# Altium schematic symbol library IC.SchLib: 136 symbols
Pins are listed as number, name and electrical type; pins without a type are passive.

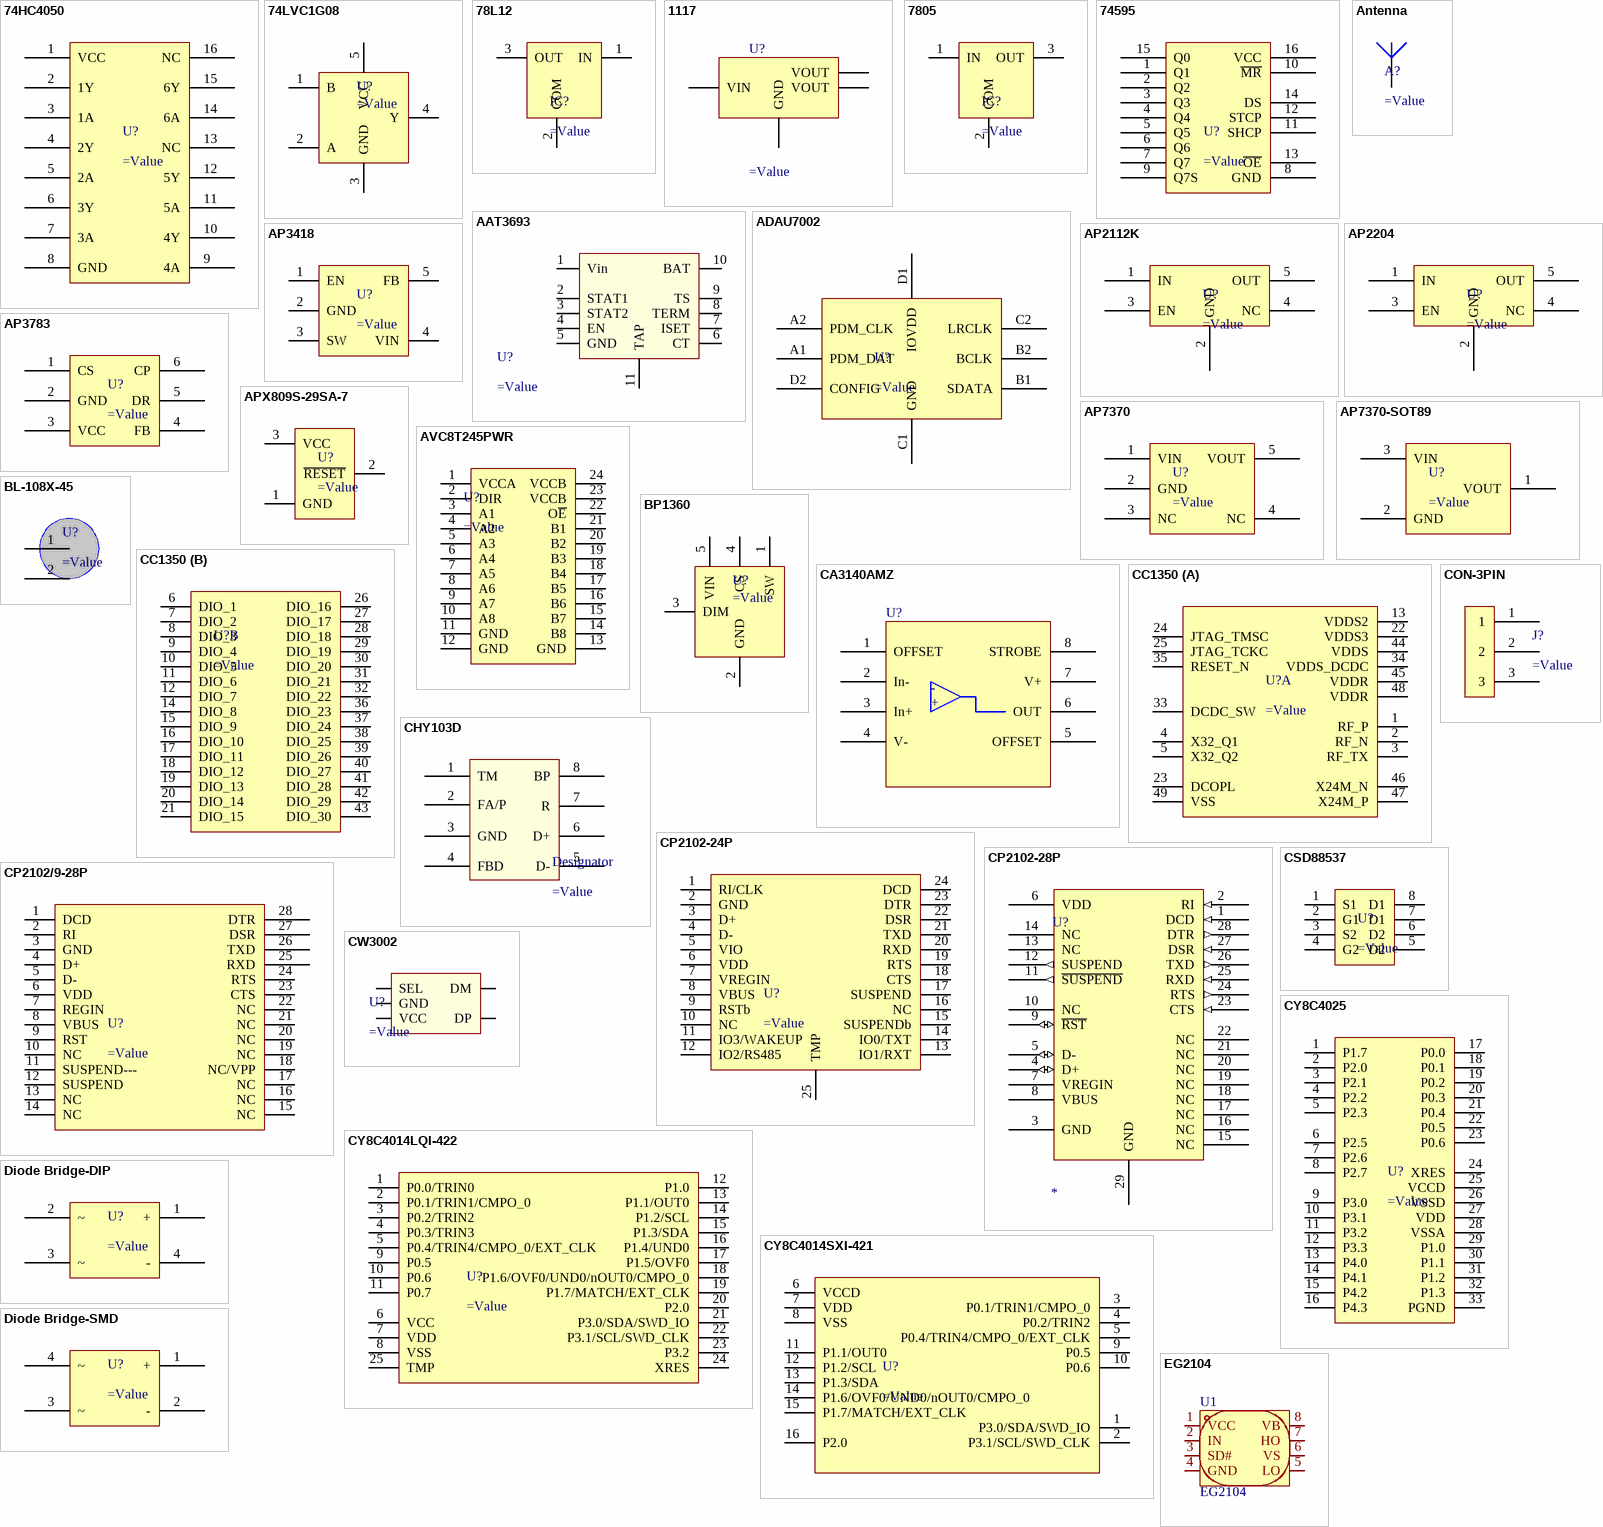
[diagram p0: symbols 74HC4050 to EG2104]

## 74HC4050
designator U?
=Description
pins: 1 VCC, 2 1Y, 3 1A, 4 2Y, 5 2A, 6 3Y, 7 3A, 8 GND, 9 4A, 10 4Y, 11 5A, 12 5Y, 13 NC, 14 6A, 15 6Y, 16 NC

## 74LVC1G08
designator U?
=Description
pins: 1 B, 2 A, 3 GND, 4 Y, 5 VCC

## 78L12
designator IC?
=Description
pins: 1 IN, 2 COM, 3 OUT

## 1117
designator U?
=Description
pins: 1 GND (power), 2 VOUT (power), 3 VIN (power), 4 VOUT

## 7805
designator IC?
=Description
pins: 1 IN, 2 COM, 3 OUT

## 74595
designator U?
=Description
pins: 1 Q1, 2 Q2, 3 Q3, 4 Q4, 5 Q5, 6 Q6, 7 Q7, 8 GND, 9 Q7S, 10 ~{MR}, 11 SHCP, 12 STCP, 13 ~{OE}, 14 DS, 15 Q0, 16 VCC

## AAT3693
designator U?
=Description
pins: 1 Vin, 2 STAT1, 3 STAT2, 4 EN, 5 GND, 6 CT, 7 ISET, 8 TERM, 9 TS, 10 BAT, 11 TAP

## ADAU7002
designator U?
=Description
pins: A1 PDM_DAT, A2 PDM_CLK, B1 SDATA, B2 BCLK, C1 GND, C2 LRCLK, D1 IOVDD, D2 CONFIG

## Antenna
designator A?
=Description
pins: 1

## AP2112K
designator U?
=description
pins: 1 IN, 2 GND, 3 EN, 4 NC, 5 OUT

## AP2204
designator U?
=Description
pins: 1 IN, 2 GND, 3 EN, 4 NC, 5 OUT

## AP3418
designator U?
=Description
pins: 1 EN, 2 GND, 3 SW, 4 VIN, 5 FB

## AP3783
designator U?
=Description
pins: 1 CS, 2 GND, 3 VCC, 4 FB, 5 DR, 6 CP

## AP7370
designator U?
=Description
pins: 1 VIN, 2 GND, 3 NC, 4 NC, 5 VOUT

## AP7370-SOT89
designator U?
=Description
pins: 1 VOUT, 2 GND, 3 VIN

## APX809S-29SA-7
designator U?
=Description
pins: 1 GND, 2 ~{RESET}, 3 VCC

## AVC8T245PWR
designator U?
=Description
pins: 1 VCCA, 2 DIR, 3 A1, 4 A2, 5 A3, 6 A4, 7 A5, 8 A6, 9 A7, 10 A8, 11 GND, 12 GND, 13 GND, 14 B8, 15 B7, 16 B6, 17 B5, 18 B4, 19 B3, 20 B2, 21 B1, 22 O~{E}, 23 VCCB, 24 VCCB

## BL-108X-45
designator U?
=Décription
pins: 1 VOUT, 2 VOUT

## BP1360
designator U?
=Description
pins: 1 SW, 2 GND, 3 DIM, 4 CS, 5 VIN

## CA3140AMZ
designator U?
=Description; Part Num 1: LM358MX; Des: IC OPAMP GP 8SOIC; MANU 1: ON Semiconductor; MANU 2: BanLinhKien.Vn; Catelogy: IC; Unit: Pcs; Kieu_Chan: *; Type: SM; Part Num 2: MH000609
footprint SOIC-8 (SOIC, 8-Leads, Body 4.9x3.9mm, Pitch 1.27mm, IPC Low Density)
pins: 1 OFFSET, 2 In-, 3 In+, 4 V-, 5 OFFSET, 6 OUT, 7 V+, 8 STROBE
text: -; +

## CC1350
designator U?
=Description
part A pins: 1 RF_P, 2 RF_N, 3 RF_TX, 4 X32_Q1, 5 X32_Q2, 13 VDDS2, 22 VDDS3, 23 DCOPL, 24 JTAG_TMSC, 25 JTAG_TCKC, 33 DCDC_SW, 34 VDDS_DCDC, 35 RESET_N, 44 VDDS, 45 VDDR, 46 X24M_N, 47 X24M_P, 48 VDDR, 49 VSS
part B pins: 6 DIO_1, 7 DIO_2, 8 DIO_3, 9 DIO_4, 10 DIO_5, 11 DIO_6, 12 DIO_7, 14 DIO_8, 15 DIO_9, 16 DIO_10, 17 DIO_11, 18 DIO_12, 19 DIO_13, 20 DIO_14, 21 DIO_15, 26 DIO_16, 27 DIO_17, 28 DIO_18, 29 DIO_19, 30 DIO_20, 31 DIO_21, 32 DIO_22, 36 DIO_23, 37 DIO_24, 38 DIO_25, 39 DIO_26, 40 DIO_27, 41 DIO_28, 42 DIO_29, 43 DIO_30

## CHY103D
designator Designator
=Description
pins: 1 TM, 2 FA/P, 3 GND, 4 FBD, 5 D-, 6 D+, 7 R, 8 BP

## CON-3PIN
designator J?
=Description
pins: 1, 2, 3

## CP2102-24P
designator U?
=Description
pins: 1 RI/CLK, 2 GND, 3 D+, 4 D-, 5 VIO, 6 VDD, 7 VREGIN, 8 VBUS, 9 RSTb, 10 NC, 11 IO3/WAKEUP, 12 IO2/RS485, 13 IO1/RXT, 14 IO0/TXT, 15 SUSPENDb, 16 NC, 17 SUSPEND, 18 CTS, 19 RTS, 20 RXD, 21 TXD, 22 DSR, 23 DTR, 24 DCD, 25 TMP

## CP2102-28P
designator U?
=Description; Value: *
pins: 1 DCD (in), 2 RI (in), 3 GND (power), 4 D+ (io), 5 D- (io), 6 VDD (power), 7 VREGIN, 8 VBUS, 9 ~{RST} (io), 10 NC, 11 ~{SUSPEND} (out), 12 SUSPEND (out), 13 NC, 14 NC, 15 NC, 16 NC, 17 NC, 18 NC, 19 NC, 20 NC, 21 NC, 22 NC, 23 CTS (in), 24 RTS (out), 25 RXD (in), 26 TXD (out), 27 DSR (in), 28 DTR (out), 29 GND

## CP2102/9-28P
designator U?
=Description
pins: 1 DCD, 2 RI, 3 GND, 4 D+, 5 D-, 6 VDD, 7 REGIN, 8 VBUS, 9 RST, 10 NC, 11 SUSPEND---, 12 SUSPEND, 13 NC, 14 NC, 15 NC, 16 NC, 17 NC, 18 NC/VPP, 19 NC, 20 NC, 21 NC, 22 NC, 23 CTS, 24 RTS, 25 RXD, 26 TXD, 27 DSR, 28 DTR

## CSD88537
designator U?
=Description
pins: 1 S1, 2 G1, 3 S2, 4 G2, 5 D2, 6 D2, 7 D1, 8 D1

## CW3002
designator U?
=Description
pins: 1 SEL, 2 GND, 3 VCC, 4 DP, 5 DM

## CY8C4014LQI-422
designator U?
=Description
pins: 1 P0.0/TRIN0, 2 P0.1/TRIN1/CMPO_0, 3 P0.2/TRIN2, 4 P0.3/TRIN3, 5 P0.4/TRIN4/CMPO_0/EXT_CLK, 6 VCC, 7 VDD, 8 VSS, 9 P0.5, 10 P0.6, 11 P0.7, 12 P1.0, 13 P1.1/OUT0, 14 P1.2/SCL, 15 P1.3/SDA, 16 P1.4/UND0, 17 P1.5/OVF0, 18 P1.6/OVF0/UND0/nOUT0/CMPO_0, 19  P1.7/MATCH/EXT_CLK, 20 P2.0, 21  P3.0/SDA/SWD_IO, 22 P3.1/SCL/SWD_CLK, 23 P3.2, 24 XRES, 25 TMP

## CY8C4014SXI-421
designator U?
=Description
pins: 1 P3.0/SDA/SWD_IO, 2 P3.1/SCL/SWD_CLK, 3 P0.1/TRIN1/CMPO_0, 4 P0.2/TRIN2, 5 P0.4/TRIN4/CMPO_0/EXT_CLK, 6 VCCD, 7 VDD, 8 VSS, 9 P0.5, 10 P0.6, 11 P1.1/OUT0, 12 P1.2/SCL, 13 P1.3/SDA, 14 P1.6/OVF0/UND0/nOUT0/CMPO_0, 15 P1.7/MATCH/EXT_CLK, 16 P2.0

## CY8C4025
designator U?
=Description
pins: 1 P1.7, 2 P2.0, 3 P2.1, 4 P2.2, 5 P2.3, 6 P2.5, 7 P2.6, 8 P2.7, 9 P3.0, 10 P3.1, 11 P3.2, 12 P3.3, 13 P4.0, 14 P4.1, 15 P4.2, 16 P4.3, 17 P0.0, 18 P0.1, 19 P0.2, 20 P0.3, 21 P0.4, 22 P0.5, 23 P0.6, 24 XRES, 25 VCCD, 26 VSSD, 27 VDD, 28 VSSA, 29 P1.0, 30 P1.1, 31 P1.2, 32 P1.3, 33 PGND

## Diode Bridge-DIP
designator U?
=Description
pins: 1 +, 2 ~, 3 ~, 4 -

## Diode Bridge-SMD
designator U?
=Description
pins: 1 +, 2 -, 3 ~, 4 ~

## EG2104
designator U1
Manufacturer: EG(屹晶微); Add into BOM: yes; Symbol: EG2104; Device: EG2104; LCSC Part Name: EG2104; Supplier Part: C186697; Manufacturer Part: EG2104; Supplier Footprint: SOP-8; JLCPCB Part Class: Extended Part; Datasheet: https://atta.szlcsc.com/upload/public/pdf/source/20220627/4CCFA0CAB664067FEE4AF87E4129127F.pdf; Supplier: LCSC; Convert to PCB: yes
pins: 1 VCC, 2 IN, 3 SD#, 4 GND, 5 LO, 6 VS, 7 HO, 8 VB

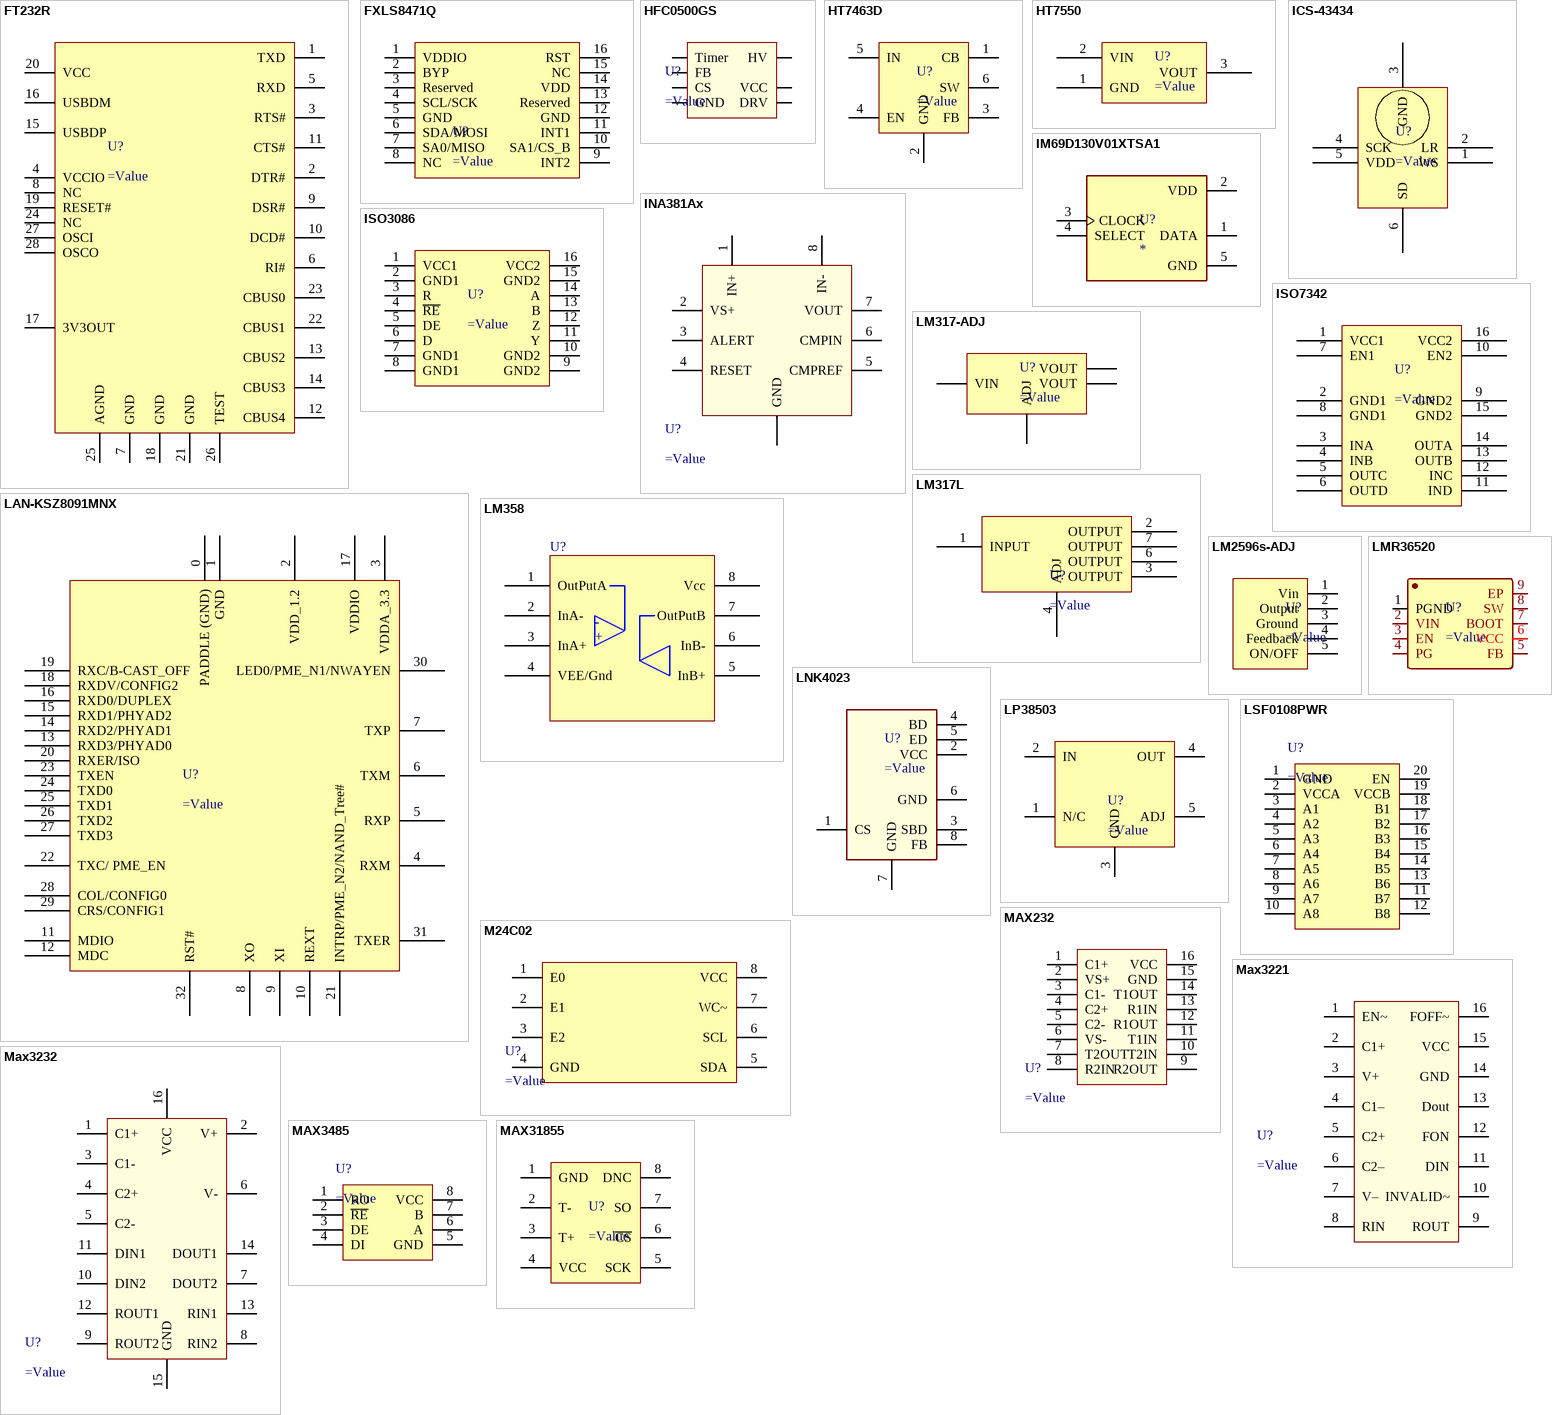
[diagram p1: symbols FT232R to MAX31855]

## FT232R
designator U?
=Description
pins: 1 TXD, 2 DTR#, 3 RTS#, 4 VCCIO, 5 RXD, 6 RI#, 7 GND, 8 NC, 9 DSR#, 10 DCD#, 11 CTS#, 12 CBUS4, 13 CBUS2, 14 CBUS3, 15 USBDP, 16 USBDM, 17 3V3OUT, 18 GND, 19 RESET#, 20 VCC, 21 GND, 22 CBUS1, 23 CBUS0, 24 NC, 25 AGND, 26 TEST, 27 OSCI, 28 OSCO

## FXLS8471Q
designator U?
=Description
pins: 1 VDDIO, 2 BYP, 3 Reserved, 4 SCL/SCK, 5 GND, 6 SDA/MOSI, 7 SA0/MISO, 8 NC, 9 INT2, 10 SA1/CS_B, 11 INT1, 12 GND, 13 Reserved, 14 VDD, 15 NC, 16 RST

## HFC0500GS
designator U?
=Description
pins: 1 Timer, 2 FB, 3 CS, 4 GND, 5 DRV, 6 VCC, 8 HV

## HT7463D
designator U?
=Description
pins: 1 CB, 2 GND, 3 FB, 4 EN, 5 IN, 6 SW

## HT7550
designator U?
=Description
pins: 1 GND, 2 VIN, 3 VOUT

## ICS-43434
designator U?
=Description
pins: 1 WS, 2 LR, 3 GND, 4 SCK, 5 VDD, 6 SD

## IM69D130V01XTSA1
designator U?
=Description; MF: Infineon Technologies; MP: IM69D130V01XTSA1; Value: *; Availability: Unavailable; Package: LLGA-5-1 Infineon Technologies; Price: None; SnapEDA_Link: https://www.snapeda.com/parts/IM69D130V01XTSA1/Infineon%20Technologies/view-part/2689823/?ref=snap
footprint MIC_IM69D130V01XTSA1
pins: 1 DATA, 2 VDD (power), 3 CLOCK, 4 SELECT, 5 GND (power)

## INA381Ax
designator U?
=Description
pins: 1 IN+, 2 VS+, 3 ALERT, 4 RESET, 5 CMPREF, 6 CMPIN, 7 VOUT, 8 IN-, PAD GND

## ISO3086
designator U?
=Description
pins: 1 VCC1, 2 GND1, 3 R, 4 ~{RE}, 5 DE, 6 D, 7 GND1, 8 GND1, 9 GND2, 10 GND2, 11 Y, 12 Z, 13 B, 14 A, 15 GND2, 16 VCC2

## ISO7342
designator U?
=Description
pins: 1 VCC1, 2 GND1, 3 INA, 4 INB, 5 OUTC, 6 OUTD, 7 EN1, 8 GND1, 9 GND2, 10 EN2, 11 IND, 12 INC, 13 OUTB, 14 OUTA, 15 GND2, 16 VCC2

## LAN-KSZ8091MNX
designator U?
pins: 0 PADDLE (GND), 1 GND, 2 VDD_1.2, 3 VDDA_3.3, 4 RXM, 5 RXP, 6 TXM, 7 TXP, 8 XO, 9 XI, 10 REXT, 11 MDIO, 12 MDC, 13 RXD3/PHYAD0, 14 RXD2/PHYAD1, 15 RXD1/PHYAD2, 16 RXD0/DUPLEX, 17 VDDIO, 18 RXDV/CONFIG2, 19 RXC/B-CAST_OFF, 20 RXER/ISO, 21 INTRP/PME_N2/NAND_Tree#, 22 TXC/ PME_EN, 23 TXEN, 24 TXD0, 25 TXD1, 26 TXD2, 27 TXD3, 28 COL/CONFIG0, 29 CRS/CONFIG1, 30 LED0/PME_N1/NWAYEN, 31 TXER, 32 RST#

## LM317-ADJ
designator U?
=Description
pins: 1 ADJ (power), 2 VOUT (power), 3 VIN (power), 4 VOUT

## LM317L
designator U?
=Description
pins: 1 INPUT, 2 OUTPUT, 3 OUTPUT, 4 ADJ, 6 OUTPUT, 7 OUTPUT

## LM358
designator U?
=Description; Part Num 1: LM358MX; Des: IC OPAMP GP 8SOIC; MANU 1: ON Semiconductor; MANU 2: BanLinhKien.Vn; Catelogy: IC; Unit: Pcs; Kieu_Chan: *; Type: SM; Part Num 2: MH000609
footprint SOIC-8 (SOIC, 8-Leads, Body 4.9x3.9mm, Pitch 1.27mm, IPC Low Density)
pins: 1 OutPutA, 2 InA-, 3 InA+, 4 VEE/Gnd, 5 InB+, 6 InB-, 7 OutPutB, 8 Vcc
text: -; +

## LM2596s-ADJ
designator U?
=Description
pins: 1 Vin, 2 Output, 3 Ground, 4 Feedback, 5 ON/OFF

## LMR36520
designator U?
pins: 1 PGND, 2 VIN, 3 EN, 4 PG, 5 FB, 6 VCC, 7 BOOT, 8 SW, 9 EP

## LNK4023
designator U?
=Description
pins: 1 CS, 2 VCC, 3 SBD, 4 BD, 5 ED, 6 GND, 7 GND, 8 FB

## LP38503
designator U?
=Description
pins: 1 N/C, 2 IN, 3 GND, 4 OUT, 5 ADJ

## LSF0108PWR
designator U?
=Description
pins: 1 GND, 2 VCCA, 3 A1, 4 A2, 5 A3, 6 A4, 7 A5, 8 A6, 9 A7, 10 A8, 11 B7, 12 B8, 13 B6, 14 B5, 15 B4, 16 B3, 17 B2, 18 B1, 19 VCCB, 20 EN

## M24C02
designator U?
=Description
pins: 1 E0, 2 E1, 3 E2, 4 GND, 5 SDA, 6 SCL, 7 WC~ (oc), 8 VCC

## MAX232
designator U?
=Description
pins: 1 C1+, 2 VS+, 3 C1-, 4 C2+, 5 C2-, 6 VS-, 7 T2OUT, 8 R2IN, 9 R2OUT, 10 T2IN, 11 T1IN, 12 R1OUT, 13 R1IN, 14 T1OUT, 15 GND, 16 VCC

## Max3221
designator U?
=Description
pins: 1 EN~, 2 C1+, 3 V+, 4 C1–, 5 C2+, 6 C2–, 7 V–, 8 RIN, 9 ROUT, 10 INVALID~, 11 DIN, 12 FON, 13 Dout, 14 GND, 15 VCC, 16 FOFF~

## Max3232
designator U?
=Description
pins: 1 C1+, 2 V+, 3 C1-, 4 C2+, 5 C2-, 6 V-, 7 DOUT2, 8 RIN2, 9 ROUT2, 10 DIN2, 11 DIN1, 12 ROUT1, 13 RIN1, 14 DOUT1, 15 GND, 16 VCC

## MAX3485
designator U?
=Description
pins: 1 RO, 2 ~{RE}, 3 DE, 4 DI, 5 GND, 6 A, 7 B, 8 VCC

## MAX31855
designator U?
=Description
pins: 1 GND, 2 T-, 3 T+, 4 VCC, 5 SCK, 6 ~{CS}, 7 SO, 8 DNC

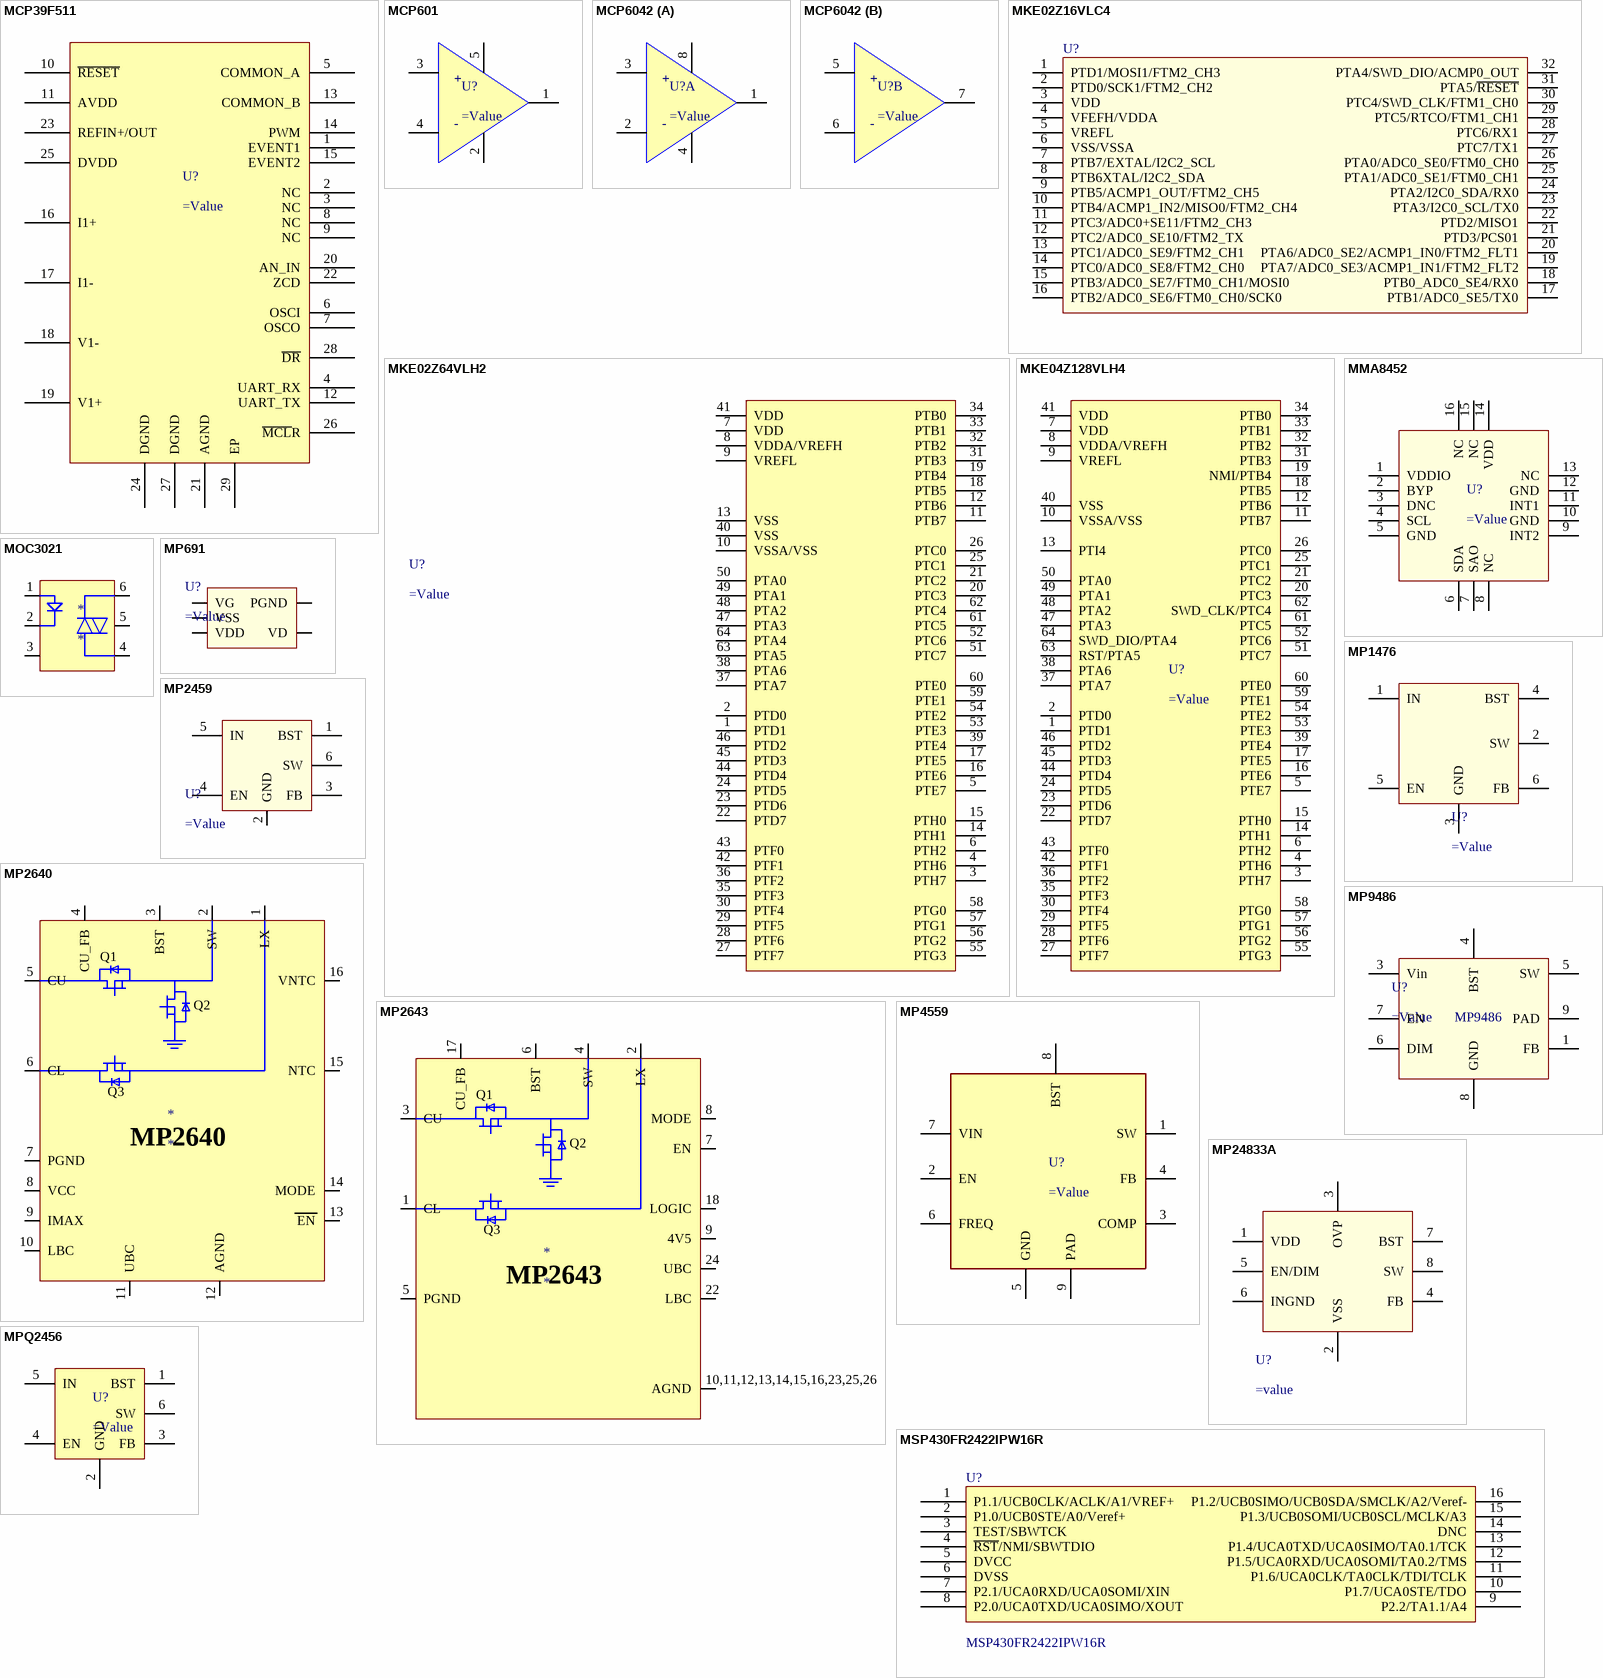
[diagram p2: symbols MCP39F511 to MSP430FR2422IPW16R]

## MCP39F511
designator U?
=Description
pins: 1 EVENT1, 2 NC, 3 NC, 4 UART_RX, 5 COMMON_A, 6 OSCI, 7 OSCO, 8 NC, 9 NC, 10 ~{RESET}, 11 AVDD, 12 UART_TX, 13 COMMON_B, 14 PWM, 15 EVENT2, 16 I1+, 17 I1-, 18 V1-, 19 V1+, 20 AN_IN, 21 AGND, 22 ZCD, 23 REFIN+/OUT, 24 DGND, 25 DVDD, 26 ~{MCL}R, 27 DGND, 28 ~{DR}, 29 EP

## MCP601
designator U?
=Description
pins: 1 VOUT, 2 VSS, 3 VIN+, 4 VIN+, 5 VDD
text: +; -

## MCP6042
designator U?
=Description
part A pins: 1 VOUT, 2, 3, 4, 8
part B pins: 5, 6, 7 VOUT
part A text: +; -
part B text: +; -

## MKE02Z16VLC4
designator U?
=Description; Part Num 1: MKE02Z16VLC4; Catelogy: IC; Des: IC MCU 32BIT 16KB FLASH 32LQFP; MANU 1: NXP USA Inc.; Type: SM
pins: 1 PTD1/MOSI1/FTM2_CH3, 2 PTD0/SCK1/FTM2_CH2, 3 VDD, 4 VFEFH/VDDA, 5 VREFL, 6 VSS/VSSA, 7 PTB7/EXTAL/I2C2_SCL, 8 PTB6XTAL/I2C2_SDA, 9 PTB5/ACMP1_OUT/FTM2_CH5, 10 PTB4/ACMP1_IN2/MISO0/FTM2_CH4, 11 PTC3/ADC0+SE11/FTM2_CH3, 12 PTC2/ADC0_SE10/FTM2_TX, 13 PTC1/ADC0_SE9/FTM2_CH1, 14 PTC0/ADC0_SE8/FTM2_CH0, 15 PTB3/ADC0_SE7/FTM0_CH1/MOSI0, 16 PTB2/ADC0_SE6/FTM0_CH0/SCK0, 17 PTB1/ADC0_SE5/TX0, 18 PTB0_ADC0_SE4/RX0, 19 PTA7/ADC0_SE3/ACMP1_IN1/FTM2_FLT2, 20 PTA6/ADC0_SE2/ACMP1_IN0/FTM2_FLT1, 21 PTD3/PCS01, 22 PTD2/MISO1, 23 PTA3/I2C0_SCL/TX0, 24 PTA2/I2C0_SDA/RX0, 25 PTA1/ADC0_SE1/FTM0_CH1, 26 PTA0/ADC0_SE0/FTM0_CH0, 27 PTC7/TX1, 28 PTC6/RX1, 29 PTC5/RTCO/FTM1_CH1, 30 PTC4/SWD_CLK/FTM1_CH0, 31 PTA5/~{RESET}, 32 PTA4/SWD_DIO/ACMP0_OUT

## MKE02Z64VLH2
designator U?
=Description
pins: 1 PTD1, 2 PTD0, 3 PTH7, 4 PTH6, 5 PTE7, 6 PTH2, 7 VDD, 8 VDDA/VREFH, 9 VREFL, 10 VSSA/VSS, 11 PTB7, 12 PTB6, 13 VSS, 14 PTH1, 15 PTH0, 16 PTE6, 17 PTE5, 18 PTB5, 19 PTB4, 20 PTC3, 21 PTC2, 22 PTD7, 23 PTD6, 24 PTD5, 25 PTC1, 26 PTC0, 27 PTF7, 28 PTF6, 29 PTF5, 30 PTF4, 31 PTB3, 32 PTB2, 33 PTB1, 34 PTB0, 35 PTF3, 36 PTF2, 37 PTA7, 38 PTA6, 39 PTE4, 40 VSS, 41 VDD, 42 PTF1, 43 PTF0, 44 PTD4, 45 PTD3, 46 PTD2, 47 PTA3, 48 PTA2, 49 PTA1, 50 PTA0, 51 PTC7, 52 PTC6, 53 PTE3, 54 PTE2, 55 PTG3, 56 PTG2, 57 PTG1, 58 PTG0, 59 PTE1, 60 PTE0, 61 PTC5, 62 PTC4, 63 PTA5, 64 PTA4

## MKE04Z128VLH4
designator U?
=Description
pins: 1 PTD1, 2 PTD0, 3 PTH7, 4 PTH6, 5 PTE7, 6 PTH2, 7 VDD, 8 VDDA/VREFH, 9 VREFL, 10 VSSA/VSS, 11 PTB7, 12 PTB6, 13 PTI4, 14 PTH1, 15 PTH0, 16 PTE6, 17 PTE5, 18 PTB5, 19 NMI/PTB4, 20 PTC3, 21 PTC2, 22 PTD7, 23 PTD6, 24 PTD5, 25 PTC1, 26 PTC0, 27 PTF7, 28 PTF6, 29 PTF5, 30 PTF4, 31 PTB3, 32 PTB2, 33 PTB1, 34 PTB0, 35 PTF3, 36 PTF2, 37 PTA7, 38 PTA6, 39 PTE4, 40 VSS, 41 VDD, 42 PTF1, 43 PTF0, 44 PTD4, 45 PTD3, 46 PTD2, 47 PTA3, 48 PTA2, 49 PTA1, 50 PTA0, 51 PTC7, 52 PTC6, 53 PTE3, 54 PTE2, 55 PTG3, 56 PTG2, 57 PTG1, 58 PTG0, 59 PTE1, 60 PTE0, 61 PTC5, 62 SWD_CLK/PTC4, 63 RST/PTA5, 64 SWD_DIO/PTA4

## MMA8452
designator U?
=Description
pins: 1 VDDIO, 2 BYP, 3 DNC, 4 SCL, 5 GND, 6 SDA, 7 SAO, 8 NC, 9 INT2, 10 GND, 11 INT1, 12 GND, 13 NC, 14 VDD, 15 NC, 16 NC

## MOC3021
designator *
pins: 1, 2, 3, 4, 5, 6

## MP691
designator U?
=Description
pins: 1 VG, 2 VSS, 3 VDD, 4 VD, 5 PGND

## MP1476
designator U?
=Description
pins: 1 IN, 2 SW, 3 GND, 4 BST, 5 EN, 6 FB

## MP2459
designator U?
=Description
pins: 1 BST, 2 GND, 3 FB, 4 EN, 5 IN, 6 SW

## MP2640
designator *
pins: 1 LX, 2 SW, 3 BST, 4 CU_FB, 5 CU, 6 CL, 7 PGND, 8 VCC, 9 IMAX, 10 LBC, 11 UBC, 12 AGND, 13 EN, 14 MODE, 15 NTC, 16 VNTC
text: Q1; Q2; Q3

## MP2643
designator *
pins: 1 CL, 2 LX, 3 CU, 4 SW, 5 PGND, 6 BST, 7 EN, 8 MODE, 9 4V5, 10,11,12,13,14,15,16,23,25,26 AGND, 17 CU_FB, 18 LOGIC, 22 LBC, 24 UBC
text: Q1; Q2; Q3

## MP4559
designator U?
=Description
pins: 1 SW, 2 EN, 3 COMP, 4 FB, 5 GND, 6 FREQ, 7 VIN, 8 BST, 9 PAD

## MP9486
designator U?
=Description
pins: 1 FB, 3 Vin, 4 BST, 5 SW, 6 DIM, 7 EN, 8 GND, 9 PAD

## MP24833A
designator U?
=Description
pins: 1 VDD, 2 VSS, 3 OVP, 4 FB, 5 EN/DIM, 6 INGND, 7 BST, 8 SW

## MPQ2456
designator U?
=Description
pins: 1 BST, 2 GND, 3 FB, 4 EN, 5 IN, 6 SW

## MSP430FR2422IPW16R
designator U?
=Description; Manufacture: Texas Instruments; Partnumber: MSP430FR2422IPW16R; Value: MSP430FR2422IPW16R; Category: IC; Mounting type: SMD; Detailed Value: MSP430FR2422IPW16R
footprint TSSOP16
pins: 1 P1.1/UCB0CLK/ACLK/A1/VREF+, 2 P1.0/UCB0STE/A0/Veref+, 3 TEST/SBWTCK, 4 ~{RST}/NMI/SBWTDIO, 5 DVCC, 6 DVSS, 7 P2.1/UCA0RXD/UCA0SOMI/XIN, 8 P2.0/UCA0TXD/UCA0SIMO/XOUT, 9 P2.2/TA1.1/A4, 10 P1.7/UCA0STE/TDO, 11 P1.6/UCA0CLK/TA0CLK/TDI/TCLK, 12 P1.5/UCA0RXD/UCA0SOMI/TA0.2/TMS, 13 P1.4/UCA0TXD/UCA0SIMO/TA0.1/TCK, 14 DNC, 15 P1.3/UCB0SOMI/UCB0SCL/MCLK/A3, 16 P1.2/UCB0SIMO/UCB0SDA/SMCLK/A2/Veref-

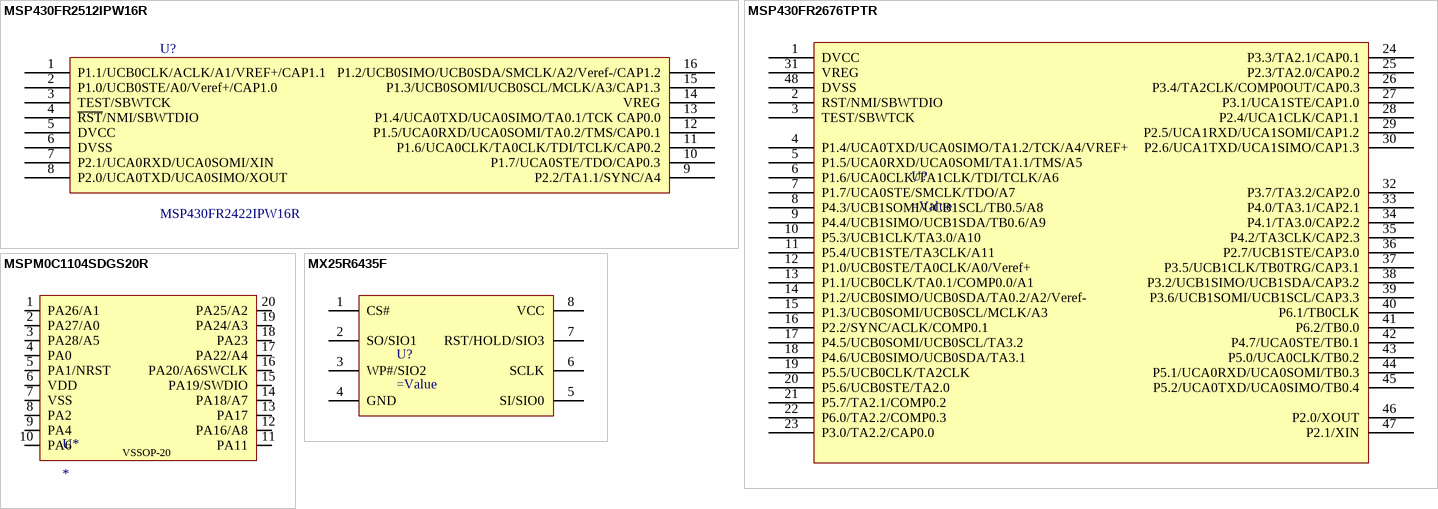
[diagram p3: symbols MSP430FR2512IPW16R to MX25R6435F]

## MSP430FR2512IPW16R
designator U?, comment MSP430FR2422IPW16R
=Description; Manufacture: Texas Instruments; Partnumber: MSP430FR2422IPW16R; Value: MSP430FR2422IPW16R; Category: IC; Mounting type: SMD; Detailed Value: MSP430FR2422IPW16R
footprint TSSOP16
pins: 1 P1.1/UCB0CLK/ACLK/A1/VREF+/CAP1.1, 2 P1.0/UCB0STE/A0/Veref+/CAP1.0, 3 TEST/SBWTCK, 4 ~{RST}/NMI/SBWTDIO, 5 DVCC, 6 DVSS, 7 P2.1/UCA0RXD/UCA0SOMI/XIN, 8 P2.0/UCA0TXD/UCA0SIMO/XOUT, 9 P2.2/TA1.1/SYNC/A4, 10 P1.7/UCA0STE/TDO/CAP0.3, 11 P1.6/UCA0CLK/TA0CLK/TDI/TCLK/CAP0.2, 12 P1.5/UCA0RXD/UCA0SOMI/TA0.2/TMS/CAP0.1, 13 P1.4/UCA0TXD/UCA0SIMO/TA0.1/TCK CAP0.0, 14 VREG, 15 P1.3/UCB0SOMI/UCB0SCL/MCLK/A3/CAP1.3, 16 P1.2/UCB0SIMO/UCB0SDA/SMCLK/A2/Veref-/CAP1.2

## MSP430FR2676TPTR
designator U?
=Description
pins: 1 DVCC, 2 RST/NMI/SBWTDIO, 3 TEST/SBWTCK, 4 P1.4/UCA0TXD/UCA0SIMO/TA1.2/TCK/A4/VREF+, 5 P1.5/UCA0RXD/UCA0SOMI/TA1.1/TMS/A5, 6 P1.6/UCA0CLK/TA1CLK/TDI/TCLK/A6, 7 P1.7/UCA0STE/SMCLK/TDO/A7, 8 P4.3/UCB1SOMI/UCB1SCL/TB0.5/A8, 9 P4.4/UCB1SIMO/UCB1SDA/TB0.6/A9, 10 P5.3/UCB1CLK/TA3.0/A10, 11 P5.4/UCB1STE/TA3CLK/A11, 12 P1.0/UCB0STE/TA0CLK/A0/Veref+, 13 P1.1/UCB0CLK/TA0.1/COMP0.0/A1, 14 P1.2/UCB0SIMO/UCB0SDA/TA0.2/A2/Veref-, 15 P1.3/UCB0SOMI/UCB0SCL/MCLK/A3, 16 P2.2/SYNC/ACLK/COMP0.1, 17 P4.5/UCB0SOMI/UCB0SCL/TA3.2, 18 P4.6/UCB0SIMO/UCB0SDA/TA3.1, 19 P5.5/UCB0CLK/TA2CLK, 20 P5.6/UCB0STE/TA2.0, 21 P5.7/TA2.1/COMP0.2, 22 P6.0/TA2.2/COMP0.3, 23 P3.0/TA2.2/CAP0.0, 24 P3.3/TA2.1/CAP0.1, 25 P2.3/TA2.0/CAP0.2, 26 P3.4/TA2CLK/COMP0OUT/CAP0.3, 27 P3.1/UCA1STE/CAP1.0, 28 P2.4/UCA1CLK/CAP1.1, 29 P2.5/UCA1RXD/UCA1SOMI/CAP1.2, 30 P2.6/UCA1TXD/UCA1SIMO/CAP1.3, 31 VREG, 32 P3.7/TA3.2/CAP2.0, 33 P4.0/TA3.1/CAP2.1, 34 P4.1/TA3.0/CAP2.2, 35 P4.2/TA3CLK/CAP2.3, 36 P2.7/UCB1STE/CAP3.0, 37 P3.5/UCB1CLK/TB0TRG/CAP3.1, 38 P3.2/UCB1SIMO/UCB1SDA/CAP3.2, 39 P3.6/UCB1SOMI/UCB1SCL/CAP3.3, 40 P6.1/TB0CLK, 41 P6.2/TB0.0, 42 P4.7/UCA0STE/TB0.1, 43 P5.0/UCA0CLK/TB0.2, 44 P5.1/UCA0RXD/UCA0SOMI/TB0.3, 45 P5.2/UCA0TXD/UCA0SIMO/TB0.4, 46 P2.0/XOUT, 47 P2.1/XIN, 48 DVSS

## MSPM0C1104SDGS20R
designator U*
pins: 1 PA26/A1, 2 PA27/A0, 3 PA28/A5, 4 PA0, 5 PA1/NRST, 6 VDD, 7 VSS, 8 PA2, 9 PA4, 10 PA6, 11 PA11, 12 PA16/A8, 13 PA17, 14 PA18/A7, 15 PA19/SWDIO, 16 PA20/A6SWCLK, 17 PA22/A4, 18 PA23, 19 PA24/A3, 20 PA25/A2
text: VSSOP-20

## MX25R6435F
designator U?
=Description
pins: 1 CS#, 2 SO/SIO1, 3 WP#/SIO2, 4 GND, 5 SI/SIO0, 6 SCLK, 7 RST/HOLD/SIO3, 8 VCC

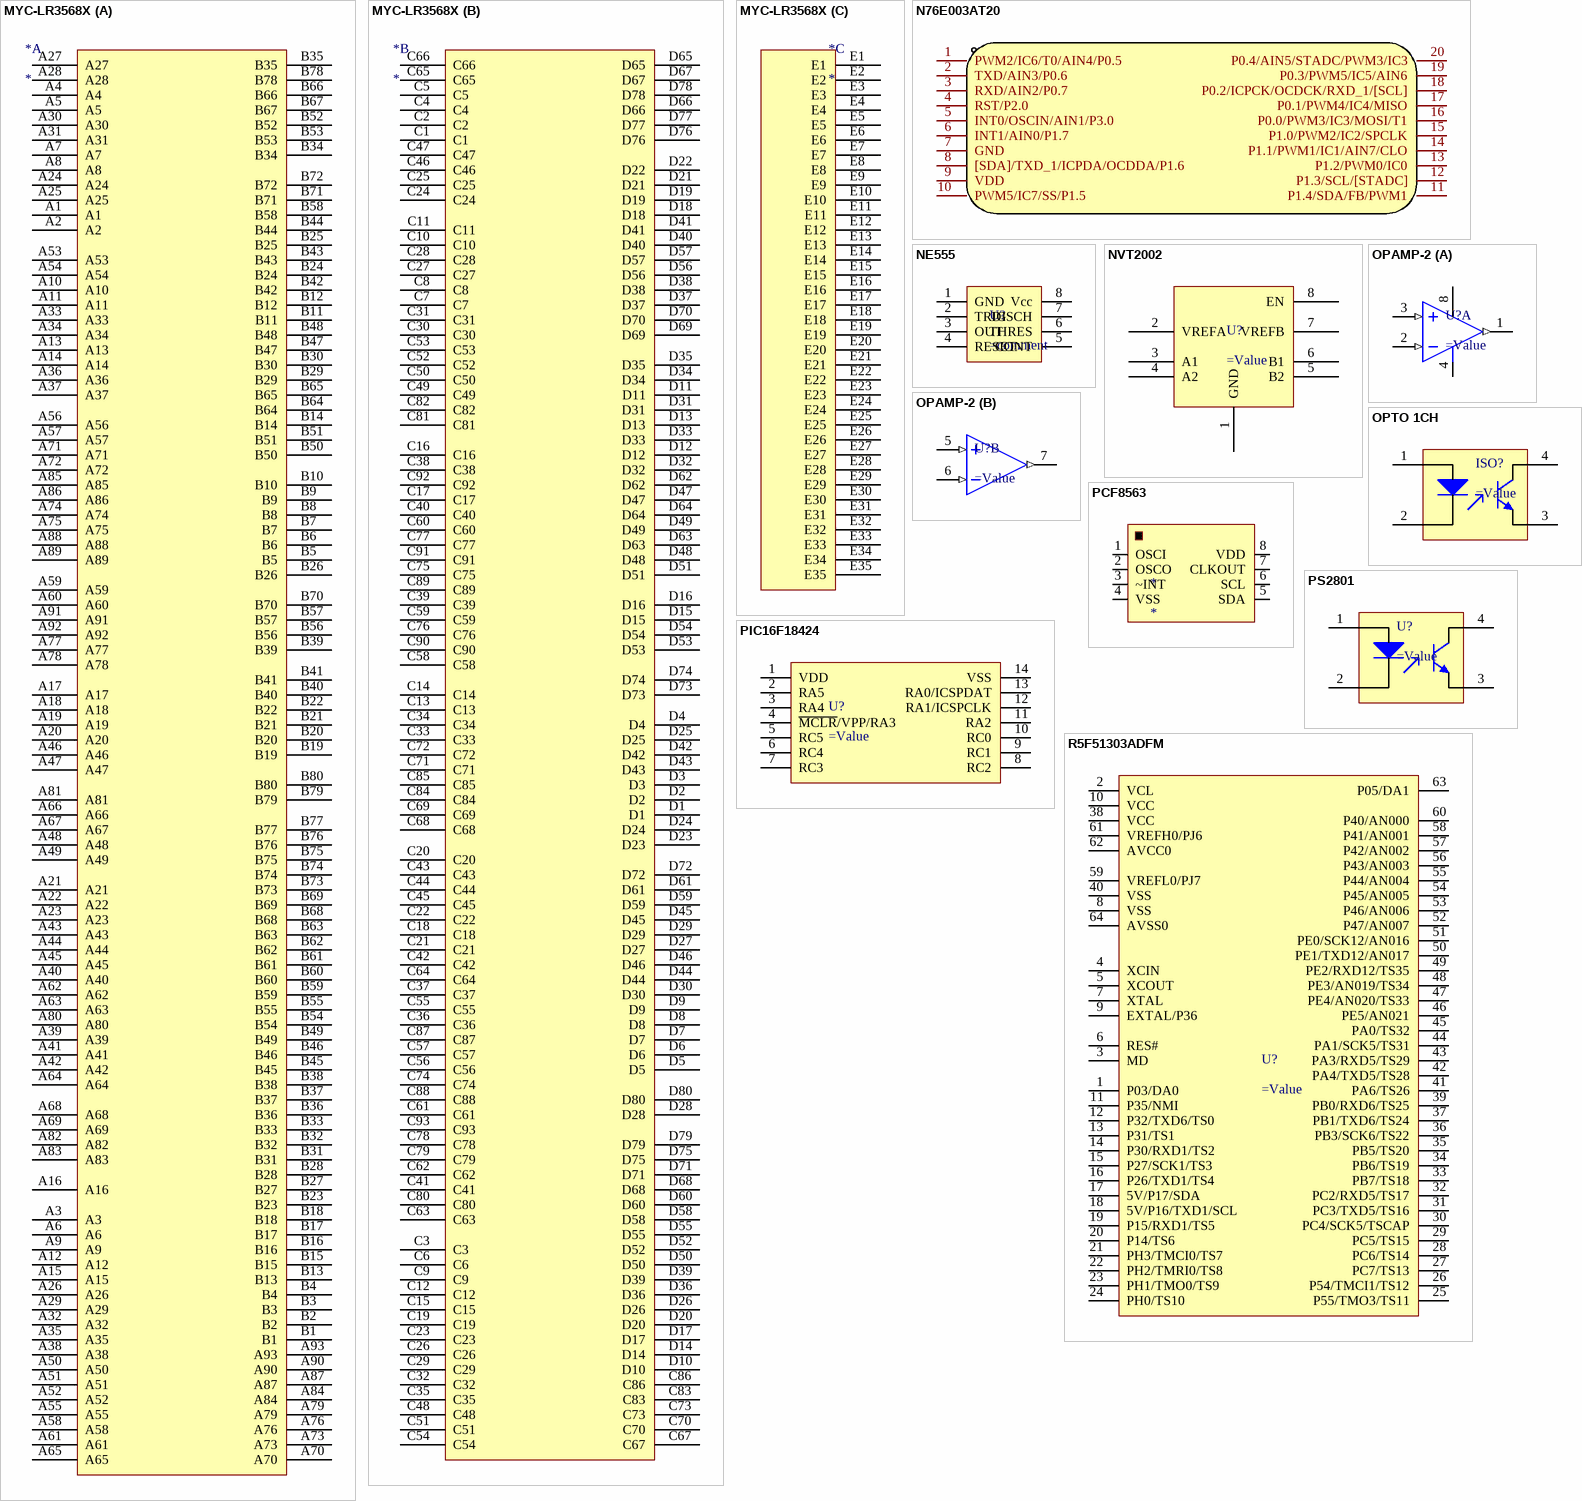
[diagram p4: symbols MYC-LR3568X to R5F51303ADFM]

## MYC-LR3568X
designator *
part A pins: A1 (oc), A2 (oc), A3 (oc), A4 (oc), A5 (oc), A6 (oc), A7 (oc), A8 (oc), A9 (oc), A10 (oc), A11 (oc), A12 (oc), A13 (oc), A14 (oc), A15 (oc), A16 (oc), A17 (oc), A18 (oc), A19 (oc), A20 (oc), A21 (oc), A22 (oc), A23 (oc), A24 (oc), A25 (oc), A26 (oc), A27 (oc), A28 (oc), A29 (oc), A30 (oc), A31 (oc), A32 (oc), A33 (oc), A34 (oc), A35 (oc), A36 (oc), A37 (oc), A38 (oc), A39 (oc), A40 (oc), A41 (oc), A42 (oc), A43 (oc), A44 (oc), A45 (oc), A46 (oc), A47 (oc), A48 (oc), A49 (oc), A50 (oc), A51 (oc), A52 (oc), A53 (oc), A54 (oc), A55 (oc), A56 (oc), A57 (oc), A58 (oc), A59 (oc), A60 (oc), A61 (oc), A62 (oc), A63 (oc), A64 (oc), A65 (oc), A66 (oc), A67 (oc), A68 (oc), A69 (oc), A70 (oc), A71 (oc), A72 (oc), A73 (oc), A74 (oc), A75 (oc), A76 (oc), A77 (oc), A78 (oc), A79 (oc), A80 (oc), A81 (oc), A82 (oc), A83 (oc), A84 (oc), A85 (oc), A86 (oc), A87 (oc), A88 (oc), A89 (oc), A90 (oc), A91 (oc), A92 (oc), A93 (oc), B1 (oc), B2 (oc), B3 (oc), B4 (oc), B5 (oc), B6 (oc), B7 (oc), B8 (oc), B9 (oc), B10 (oc), B11 (oc), B12 (oc), B13 (oc), B14 (oc), B15 (oc), B16 (oc), B17 (oc), B18 (oc), B19 (oc), B20 (oc), B21 (oc), B22 (oc), B23 (oc), B24 (oc), B25 (oc), B26 (oc), B27 (oc), B28 (oc), B29 (oc), B30 (oc), B31 (oc), B32 (oc), B33 (oc), B34 (oc), B35 (oc), B36 (oc), B37 (oc), B38 (oc), B39 (oc), B40 (oc), B41 (oc), B42 (oc), B43 (oc), B44 (oc), B45 (oc), B46 (oc), B47 (oc), B48 (oc), B49 (oc), B50 (oc), B51 (oc), B52 (oc), B53 (oc), B54 (oc), B55 (oc), B56 (oc), B57 (oc), B58 (oc), B59 (oc), B60 (oc), B61 (oc), B62 (oc), B63 (oc), B64 (oc), B65 (oc), B66 (oc), B67 (oc), B68 (oc), B69 (oc), B70 (oc), B71 (oc), B72 (oc), B73 (oc), B74 (oc), B75 (oc), B76 (oc), B77 (oc), B78 (oc), B79 (oc), B80 (oc)
part B pins: C1 (oc), C2 (oc), C3 (oc), C4 (oc), C5 (oc), C6 (oc), C7 (oc), C8 (oc), C9 (oc), C10 (oc), C11 (oc), C12 (oc), C13 (oc), C14 (oc), C15 (oc), C16 (oc), C17 (oc), C18 (oc), C19 (oc), C20 (oc), C21 (oc), C22 (oc), C23 (oc), C24 (oc), C25 (oc), C26 (oc), C27 (oc), C28 (oc), C29 (oc), C30 (oc), C31 (oc), C32 (oc), C33 (oc), C34 (oc), C35 (oc), C36 (oc), C37 (oc), C38 (oc), C39 (oc), C40 (oc), C41 (oc), C42 (oc), C43 (oc), C44 (oc), C45 (oc), C46 (oc), C47 (oc), C48 (oc), C49 (oc), C50 (oc), C51 (oc), C52 (oc), C53 (oc), C54 (oc), C55 (oc), C56 (oc), C57 (oc), C58 (oc), C59 (oc), C60 (oc), C61 (oc), C62 (oc), C63 (oc), C64 (oc), C65 (oc), C66 (oc), C67 (oc), C68 (oc), C69 (oc), C70 (oc), C71 (oc), C72 (oc), C73 (oc), C74 (oc), C75 (oc), C76 (oc), C77 (oc), C78 (oc), C79 (oc), C80 (oc), C81 (oc), C82 (oc), C83 (oc), C84 (oc), C85 (oc), C86 (oc), C87 (oc), C88 (oc), C89 (oc), C90 (oc), C91 (oc), C92 (oc), C93 (oc), D1 (oc), D2 (oc), D3 (oc), D4 (oc), D5 (oc), D6 (oc), D7 (oc), D8 (oc), D9 (oc), D10 (oc), D11 (oc), D12 (oc), D13 (oc), D14 (oc), D15 (oc), D16 (oc), D17 (oc), D18 (oc), D19 (oc), D20 (oc), D21 (oc), D22 (oc), D23 (oc), D24 (oc), D25 (oc), D26 (oc), D27 (oc), D28 (oc), D29 (oc), D30 (oc), D31 (oc), D32 (oc), D33 (oc), D34 (oc), D35 (oc), D36 (oc), D37 (oc), D38 (oc), D39 (oc), D40 (oc), D41 (oc), D42 (oc), D43 (oc), D44 (oc), D45 (oc), D46 (oc), D47 (oc), D48 (oc), D49 (oc), D50 (oc), D51 (oc), D52 (oc), D53 (oc), D54 (oc), D55 (oc), D56 (oc), D57 (oc), D58 (oc), D59 (oc), D60 (oc), D61 (oc), D62 (oc), D63 (oc), D64 (oc), D65 (oc), D66 (oc), D67 (oc), D68 (oc), D69 (oc), D70 (oc), D71 (oc), D72 (oc), D73 (oc), D74 (oc), D75 (oc), D76 (oc), D77 (oc), D78 (oc), D79 (oc), D80 (oc)
part C pins: E1 (oc), E2 (oc), E3 (oc), E4 (oc), E5 (oc), E6 (oc), E7 (oc), E8 (oc), E9 (oc), E10 (oc), E11 (oc), E12 (oc), E13 (oc), E14 (oc), E15 (oc), E16 (oc), E17 (oc), E18 (oc), E19 (oc), E20 (oc), E21 (oc), E22 (oc), E23 (oc), E24 (oc), E25 (oc), E26 (oc), E27 (oc), E28 (oc), E29 (oc), E30 (oc), E31 (oc), E32 (oc), E33 (oc), E34 (oc), E35 (oc)

## N76E003AT20
designator U?
=Description; Manufacturer: NUVOTON(新唐); Symbol: N76E003AT20; Device: N76E003AT20_C82751; Add into BOM: yes; CPU Core: 51Series; Program Storage Size: 18KB; RAM Size: 1KB; GPIO Ports Number: 18; Operating Voltage Range: 2.4V~5.5V; CPU Maximum Speed: 16MHz; Program Memory Type: FLASH; ADC (Bit): 12bit; PWM (Bit): 16bit; 16Bit Timer: 4; UART/USART: 2; I2C: 1; Peripheral/Function: Low-Voltage检测；WDT；CCP捕获/比较; Watchdog: 有; Supplier: LCSC; Manufacturer Part: N76E003AT20; Supplier Part: C82751; JLCPCB Part Class: Extended Part; LCSC Part Name: N76E003AT20; Supplier Footprint: TSSOP-20; Datasheet: https://atta.szlcsc.com/upload/public/pdf/source/20200812/N76E003AT20_PDF_C82751_08F4AF0330E7FC74AD4017CFF3BC4347.pdf; Convert to PCB: yes; Operating Temperature Range: -40℃~+105℃; DAC (Bit): -; 8Bit Timer: -; 32Bit Timer: -; CAN: -; I2S: -; SPI: 1; Universal Serial Bus: -; Internal Comparator: -; communication protocol: -; Real-Time Clock: -; Infrared Data Association: -; Low-Voltage Detect: 有; CCP Capture/Compare: 有; Secure Digital Input and Output: -; Direct Memory Access: -; Internal Oscillator: 有
footprint TSSOP-20_L6.5-W4.4-P0.65-LS6.4-BL
pins: 1 PWM2/IC6/T0/AIN4/P0.5, 2 TXD/AIN3/P0.6, 3 RXD/AIN2/P0.7, 4 RST/P2.0, 5 INT0/OSCIN/AIN1/P3.0, 6 INT1/AIN0/P1.7, 7 GND, 8 [SDA]/TXD_1/ICPDA/OCDDA/P1.6, 9 VDD, 10 PWM5/IC7/SS/P1.5, 11 P1.4/SDA/FB/PWM1, 12 P1.3/SCL/[STADC], 13 P1.2/PWM0/IC0, 14 P1.1/PWM1/IC1/AIN7/CLO, 15 P1.0/PWM2/IC2/SPCLK, 16 P0.0/PWM3/IC3/MOSI/T1, 17 P0.1/PWM4/IC4/MISO, 18 P0.2/ICPCK/OCDCK/RXD_1/[SCL], 19 P0.3/PWM5/IC5/AIN6, 20 P0.4/AIN5/STADC/PWM3/IC3

## NE555
designator U?
pins: 1 GND, 2 TRIG, 3 OUT, 4 RESET, 5 CONT, 6 THRES, 7 DISCH, 8 Vcc

## NVT2002
designator U?
=Description
pins: 1 GND, 2 VREFA, 3 A1, 4 A2, 5 B2, 6 B1, 7 VREFB, 8 EN

## OPAMP-2
designator U?
=Description
part A pins: 1 OUT (out), 2 IN- (in), 3 IN+ (in), 4 -V, 8 +V
part B pins: 5 IN+ (in), 6 IN- (in), 7 OUT (out)

## OPTO 1CH
designator ISO?
=Description
pins: 1, 2, 3 4, 4 43

## PCF8563
designator *
pins: 1 OSCI, 2 OSCO, 3 ~INT, 4 VSS, 5 SDA, 6 SCL, 7 CLKOUT, 8 VDD

## PIC16F18424
designator U?
=Description
pins: 1 VDD, 2 RA5, 3 RA4, 4 ~{MCLR}/VPP/RA3, 5 RC5, 6 RC4, 7 RC3, 8 RC2, 9 RC1, 10 RC0, 11 RA2, 12 RA1/ICSPCLK, 13 RA0/ICSPDAT, 14 VSS

## PS2801
designator U?
=Description
pins: 1, 2, 3 4, 4 43

## R5F51303ADFM
designator U?
=Description
pins: 1 P03/DA0, 2 VCL, 3 MD, 4 XCIN, 5 XCOUT, 6 RES#, 7 XTAL, 8 VSS, 9 EXTAL/P36, 10 VCC, 11 P35/NMI, 12 P32/TXD6/TS0, 13 P31/TS1, 14 P30/RXD1/TS2, 15 P27/SCK1/TS3, 16 P26/TXD1/TS4, 17 5V/P17/SDA, 18 5V/P16/TXD1/SCL, 19 P15/RXD1/TS5, 20 P14/TS6, 21 PH3/TMCI0/TS7, 22 PH2/TMRI0/TS8, 23 PH1/TMO0/TS9, 24 PH0/TS10, 25 P55/TMO3/TS11, 26 P54/TMCI1/TS12, 27 PC7/TS13, 28 PC6/TS14, 29 PC5/TS15, 30 PC4/SCK5/TSCAP, 31 PC3/TXD5/TS16, 32 PC2/RXD5/TS17, 33 PB7/TS18, 34 PB6/TS19, 35 PB5/TS20, 36 PB3/SCK6/TS22, 37 PB1/TXD6/TS24, 38 VCC, 39 PB0/RXD6/TS25, 40 VSS, 41 PA6/TS26, 42 PA4/TXD5/TS28, 43 PA3/RXD5/TS29, 44 PA1/SCK5/TS31, 45 PA0/TS32, 46 PE5/AN021, 47 PE4/AN020/TS33, 48 PE3/AN019/TS34, 49 PE2/RXD12/TS35, 50 PE1/TXD12/AN017, 51 PE0/SCK12/AN016, 52 P47/AN007, 53 P46/AN006, 54 P45/AN005, 55 P44/AN004, 56 P43/AN003, 57 P42/AN002, 58 P41/AN001, 59 VREFL0/PJ7, 60 P40/AN000, 61 VREFH0/PJ6, 62 AVCC0, 63 P05/DA1, 64 AVSS0

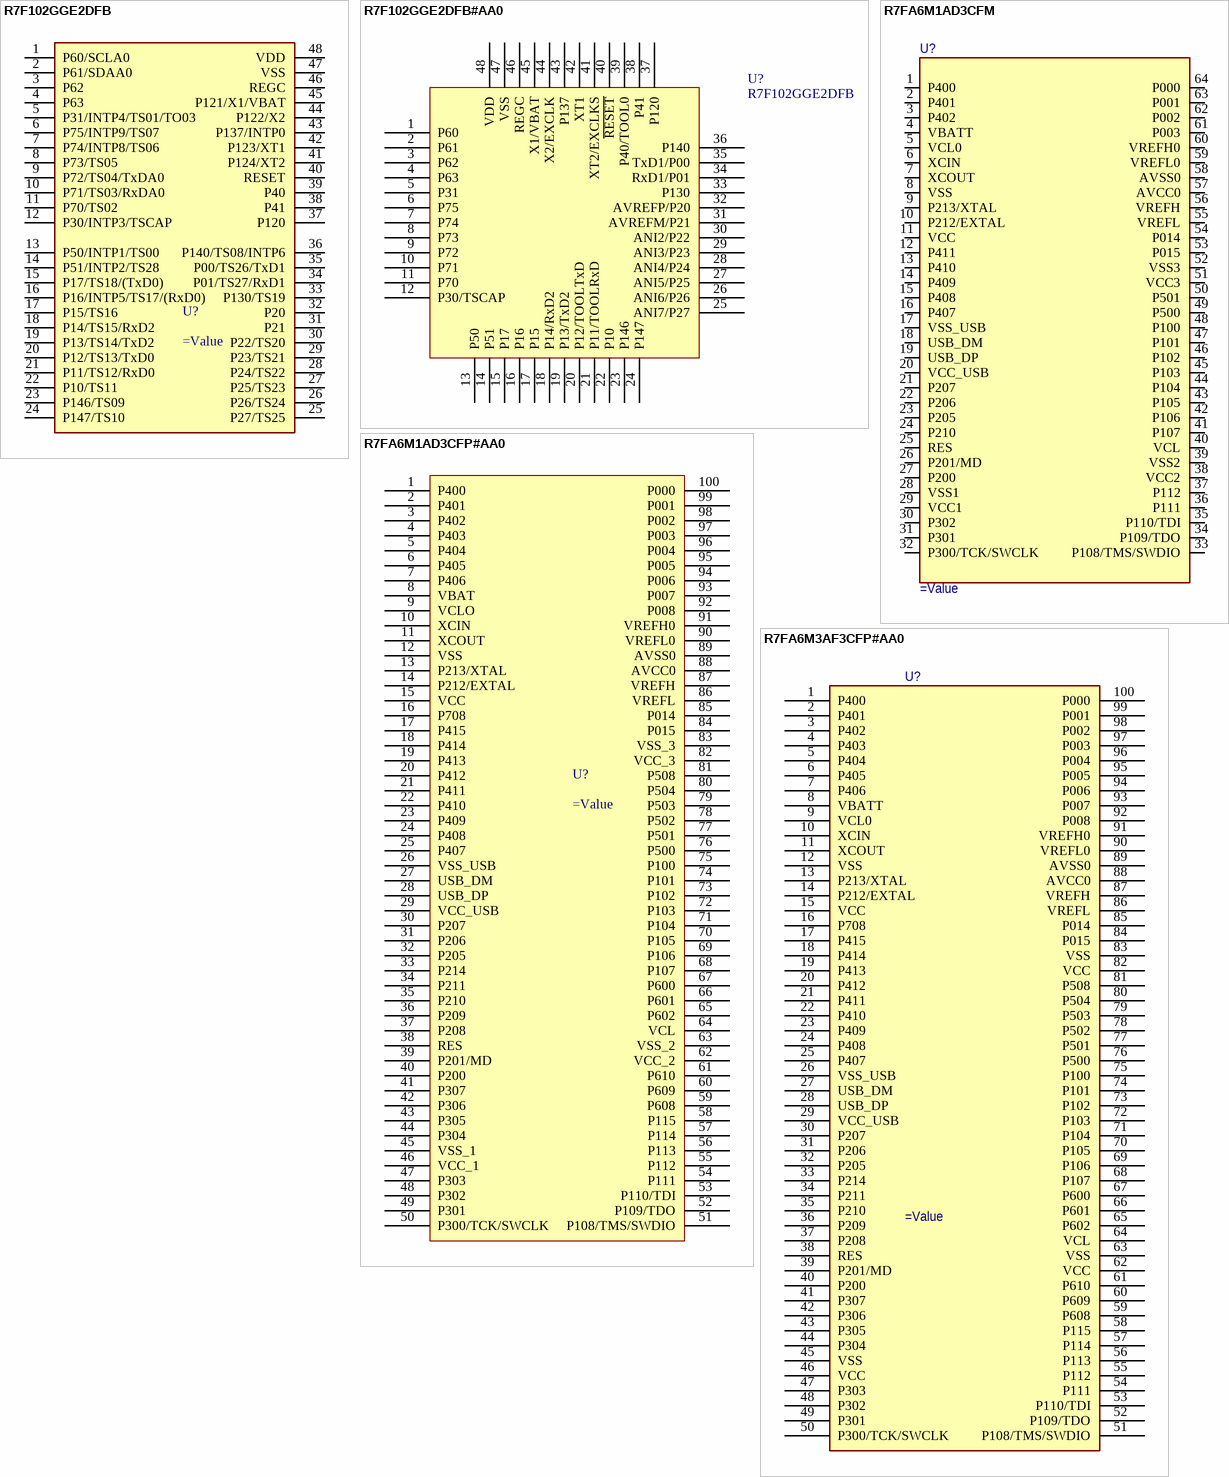
[diagram p5: symbols R7F102GGE2DFB to R7FA6M3AF3CFP#AA0]

## R7F102GGE2DFB
designator U?
=Description
pins: 1 P60/SCLA0, 2 P61/SDAA0, 3 P62, 4 P63, 5 P31/INTP4/TS01/TO03, 6 P75/INTP9/TS07, 7 P74/INTP8/TS06, 8 P73/TS05, 9 P72/TS04/TxDA0, 10 P71/TS03/RxDA0, 11 P70/TS02, 12 P30/INTP3/TSCAP, 13 P50/INTP1/TS00, 14 P51/INTP2/TS28, 15 P17/TS18/(TxD0), 16 P16/INTP5/TS17/(RxD0), 17 P15/TS16, 18 P14/TS15/RxD2, 19 P13/TS14/TxD2, 20 P12/TS13/TxD0, 21 P11/TS12/RxD0, 22 P10/TS11, 23 P146/TS09, 24 P147/TS10, 25 P27/TS25, 26 P26/TS24, 27 P25/TS23, 28 P24/TS22, 29 P23/TS21, 30 P22/TS20, 31 P21, 32 P20, 33 P130/TS19, 34 P01/TS27/RxD1, 35 P00/TS26/TxD1, 36 P140/TS08/INTP6, 37 P120, 38 P41, 39 P40, 40 RESET, 41 P124/XT2, 42 P123/XT1, 43 P137/INTP0, 44 P122/X2, 45 P121/X1/VBAT, 46 REGC, 47 VSS, 48 VDD

## R7F102GGE2DFB#AA0
designator U?, comment R7F102GGE2DFB
RL78/G22 ROM64KB, 48PIN LFQFP; Partnumber: R7F102GGE2DFB#AA0; Manufacture: RENESAS; Value: R7F102GGE2DFB; Category: IC; Mounting type: SMD; Detailed Value: R7F102GGE2DFB; Creator: Datnd; Supplier: LCSC
footprint LQFP-48 (TSQFP, 48-Leads, Body 7.00x7.00mm, Pitch 0.50mm, IPC Medium Density)
pins: 1 P60, 2 P61, 3 P62, 4 P63, 5 P31, 6 P75, 7 P74, 8 P73, 9 P72, 10 P71, 11 P70, 12 P30/TSCAP, 13 P50, 14 P51, 15 P17, 16 P16, 17 P15, 18 P14/RxD2, 19 P13/TxD2, 20 P12/TOOLTxD, 21 P11/TOOLRxD, 22 P10, 23 P146, 24 P147, 25 ANI7/P27, 26 ANI6/P26, 27 ANI5/P25, 28 ANI4/P24, 29 ANI3/P23, 30 ANI2/P22, 31 AVREFM/P21, 32 AVREFP/P20, 33 P130, 34 RxD1/P01, 35 TxD1/P00, 36 P140, 37 P120, 38 P41, 39 P40/TOOL0, 40 ~{RESET}, 41 XT2/EXCLKS, 42 XT1, 43 P137, 44 X2/EXCLK, 45 X1/VBAT, 46 REGC, 47 VSS, 48 VDD

## R7FA6M1AD3CFM
designator U?
=Description
footprint SQFP50P1200X1200X170-64L (SQFP, 64-Leads, Body 10.00x10.00mm, Pitch 0.50mm, IPC High Density)
pins: 1 P400, 2 P401, 3 P402, 4 VBATT, 5 VCL0, 6 XCIN, 7 XCOUT, 8 VSS, 9 P213/XTAL, 10 P212/EXTAL, 11 VCC, 12 P411, 13 P410, 14 P409, 15 P408, 16 P407, 17 VSS_USB, 18 USB_DM, 19 USB_DP, 20 VCC_USB, 21 P207, 22 P206, 23 P205, 24 P210, 25 RES, 26 P201/MD, 27 P200, 28 VSS1, 29 VCC1, 30 P302, 31 P301, 32 P300/TCK/SWCLK, 33 P108/TMS/SWDIO, 34 P109/TDO, 35 P110/TDI, 36 P111, 37 P112, 38 VCC2, 39 VSS2, 40 VCL, 41 P107, 42 P106, 43 P105, 44 P104, 45 P103, 46 P102, 47 P101, 48 P100, 49 P500, 50 P501, 51 VCC3, 52 VSS3, 53 P015, 54 P014, 55 VREFL, 56 VREFH, 57 AVCC0, 58 AVSS0, 59 VREFL0, 60 VREFH0, 61 P003, 62 P002, 63 P001, 64 P000

## R7FA6M1AD3CFP#AA0
designator U?
=Description
pins: 1 P400, 2 P401, 3 P402, 4 P403, 5 P404, 6 P405, 7 P406, 8 VBAT, 9 VCLO, 10 XCIN, 11 XCOUT, 12 VSS, 13 P213/XTAL, 14 P212/EXTAL, 15 VCC, 16 P708, 17 P415, 18 P414, 19 P413, 20 P412, 21 P411, 22 P410, 23 P409, 24 P408, 25 P407, 26 VSS_USB, 27 USB_DM, 28 USB_DP, 29 VCC_USB, 30 P207, 31 P206, 32 P205, 33 P214, 34 P211, 35 P210, 36 P209, 37 P208, 38 RES, 39 P201/MD, 40 P200, 41 P307, 42 P306, 43 P305, 44 P304, 45 VSS_1, 46 VCC_1, 47 P303, 48 P302, 49 P301, 50 P300/TCK/SWCLK, 51 P108/TMS/SWDIO, 52 P109/TDO, 53 P110/TDI, 54 P111, 55 P112, 56 P113, 57 P114, 58 P115, 59 P608, 60 P609, 61 P610, 62 VCC_2, 63 VSS_2, 64 VCL, 65 P602, 66 P601, 67 P600, 68 P107, 69 P106, 70 P105, 71 P104, 72 P103, 73 P102, 74 P101, 75 P100, 76 P500, 77 P501, 78 P502, 79 P503, 80 P504, 81 P508, 82 VCC_3, 83 VSS_3, 84 P015, 85 P014, 86 VREFL, 87 VREFH, 88 AVCC0, 89 AVSS0, 90 VREFL0, 91 VREFH0, 92 P008, 93 P007, 94 P006, 95 P005, 96 P004, 97 P003, 98 P002, 99 P001, 100 P000

## R7FA6M3AF3CFP#AA0
designator U?
=Description
footprint SQFP50P1200X1200X170-64L (SQFP, 64-Leads, Body 10.00x10.00mm, Pitch 0.50mm, IPC High Density)
pins: 1 P400, 2 P401, 3 P402, 4 P403, 5 P404, 6 P405, 7 P406, 8 VBATT, 9 VCL0, 10 XCIN, 11 XCOUT, 12 VSS, 13 P213/XTAL, 14 P212/EXTAL, 15 VCC, 16 P708, 17 P415, 18 P414, 19 P413, 20 P412, 21 P411, 22 P410, 23 P409, 24 P408, 25 P407, 26 VSS_USB, 27 USB_DM, 28 USB_DP, 29 VCC_USB, 30 P207, 31 P206, 32 P205, 33 P214, 34 P211, 35 P210, 36 P209, 37 P208, 38 RES, 39 P201/MD, 40 P200, 41 P307, 42 P306, 43 P305, 44 P304, 45 VSS, 46 VCC, 47 P303, 48 P302, 49 P301, 50 P300/TCK/SWCLK, 51 P108/TMS/SWDIO, 52 P109/TDO, 53 P110/TDI, 54 P111, 55 P112, 56 P113, 57 P114, 58 P115, 59 P608, 60 P609, 61 P610, 62 VCC, 63 VSS, 64 VCL, 65 P602, 66 P601, 67 P600, 68 P107, 69 P106, 70 P105, 71 P104, 72 P103, 73 P102, 74 P101, 75 P100, 76 P500, 77 P501, 78 P502, 79 P503, 80 P504, 81 P508, 82 VCC, 83 VSS, 84 P015, 85 P014, 86 VREFL, 87 VREFH, 88 AVCC0, 89 AVSS0, 90 VREFL0, 91 VREFH0, 92 P008, 93 P007, 94 P006, 95 P005, 96 P004, 97 P003, 98 P002, 99 P001, 100 P000

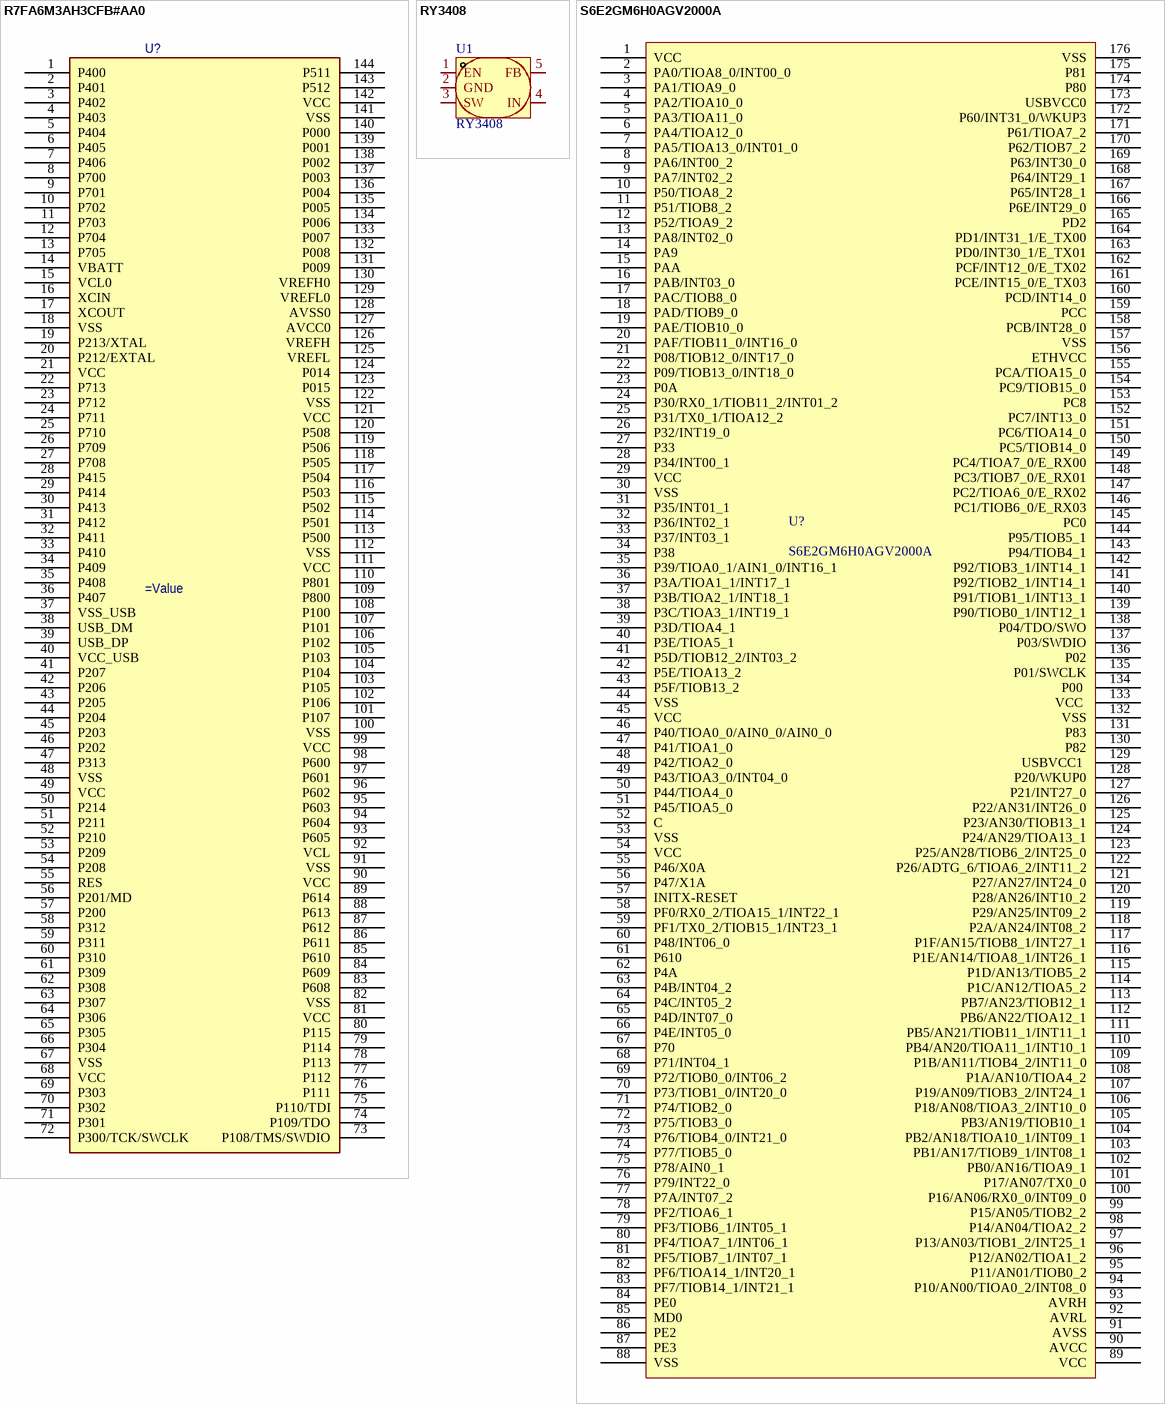
[diagram p6: symbols R7FA6M3AH3CFB#AA0 to S6E2GM6H0AGV2000A]

## R7FA6M3AH3CFB#AA0
designator U?
=Description
footprint SQFP50P1200X1200X170-64L (SQFP, 64-Leads, Body 10.00x10.00mm, Pitch 0.50mm, IPC High Density)
pins: 1 P400, 2 P401, 3 P402, 4 P403, 5 P404, 6 P405, 7 P406, 8 P700, 9 P701, 10 P702, 11 P703, 12 P704, 13 P705, 14 VBATT, 15 VCL0, 16 XCIN, 17 XCOUT, 18 VSS, 19 P213/XTAL, 20 P212/EXTAL, 21 VCC, 22 P713, 23 P712, 24 P711, 25 P710, 26 P709, 27 P708, 28 P415, 29 P414, 30 P413, 31 P412, 32 P411, 33 P410, 34 P409, 35 P408, 36 P407, 37 VSS_USB, 38 USB_DM, 39 USB_DP, 40 VCC_USB, 41 P207, 42 P206, 43 P205, 44 P204, 45 P203, 46 P202, 47 P313, 48 VSS, 49 VCC, 50 P214, 51 P211, 52 P210, 53 P209, 54 P208, 55 RES, 56 P201/MD, 57 P200, 58 P312, 59 P311, 60 P310, 61 P309, 62 P308, 63 P307, 64 P306, 65 P305, 66 P304, 67 VSS, 68 VCC, 69 P303, 70 P302, 71 P301, 72 P300/TCK/SWCLK, 73 P108/TMS/SWDIO, 74 P109/TDO, 75 P110/TDI, 76 P111, 77 P112, 78 P113, 79 P114, 80 P115, 81 VCC, 82 VSS, 83 P608, 84 P609, 85 P610, 86 P611, 87 P612, 88 P613, 89 P614, 90 VCC, 91 VSS, 92 VCL, 93 P605, 94 P604, 95 P603, 96 P602, 97 P601, 98 P600, 99 VCC, 100 VSS, 101 P107, 102 P106, 103 P105, 104 P104, 105 P103, 106 P102, 107 P101, 108 P100, 109 P800, 110 P801, 111 VCC, 112 VSS, 113 P500, 114 P501, 115 P502, 116 P503, 117 P504, 118 P505, 119 P506, 120 P508, 121 VCC, 122 VSS, 123 P015, 124 P014, 125 VREFL, 126 VREFH, 127 AVCC0, 128 AVSS0, 129 VREFL0, 130 VREFH0, 131 P009, 132 P008, 133 P007, 134 P006, 135 P005, 136 P004, 137 P003, 138 P002, 139 P001, 140 P000, 141 VSS, 142 VCC, 143 P512, 144 P511

## RY3408
designator U1
Manufacturer: RYCHiP(蕊源); Add into BOM: yes; Function: Step-down type; Output Type: Fixed; Voltage - Supply: 2.5V~5.5V; Output Voltage: 600mV~5.5V; Output Current: 1A; Frequency - Switching: 1.5MHz; Number of Outputs: 1; Topology: Step-down; Quiescent Current: 40uA; Switch tube (built-in/external): Built-in; Symbol: RY3408; Device: RY3408; LCSC Part Name: 5.5V 1A 1.5MHz 同步降压调节器; Supplier Part: C370750; Manufacturer Part: RY3408; Supplier Footprint: SOT-23-5; JLCPCB Part Class: Extended Part; Datasheet: https://atta.szlcsc.com/upload/public/pdf/source/20190401/C370750_391097459A1376D00374F95CC0163C7D.pdf; Supplier: LCSC; Convert to PCB: yes; Operating Temperature: -40℃~+85℃; Synchronous Rectifier: Yes
footprint SOT-23-5_L3.0-W1.7-P0.95-LS2.8-BL
3D model SOT-23-5_L2.9-W1.6-H1.1-LS2.8-P0.95
pins: 1 EN, 2 GND, 3 SW, 4 IN, 5 FB

## S6E2GM6H0AGV2000A
designator U?
pins: 1 VCC, 2 PA0/TIOA8_0/INT00_0, 3 PA1/TIOA9_0, 4 PA2/TIOA10_0, 5 PA3/TIOA11_0, 6 PA4/TIOA12_0, 7 PA5/TIOA13_0/INT01_0, 8 PA6/INT00_2, 9 PA7/INT02_2, 10 P50/TIOA8_2, 11 P51/TIOB8_2, 12 P52/TIOA9_2, 13 PA8/INT02_0, 14 PA9, 15 PAA, 16 PAB/INT03_0, 17 PAC/TIOB8_0, 18 PAD/TIOB9_0, 19 PAE/TIOB10_0, 20 PAF/TIOB11_0/INT16_0, 21 P08/TIOB12_0/INT17_0, 22 P09/TIOB13_0/INT18_0, 23 P0A, 24 P30/RX0_1/TIOB11_2/INT01_2, 25 P31/TX0_1/TIOA12_2, 26 P32/INT19_0, 27 P33, 28 P34/INT00_1, 29 VCC, 30 VSS, 31 P35/INT01_1, 32 P36/INT02_1, 33 P37/INT03_1, 34 P38, 35 P39/TIOA0_1/AIN1_0/INT16_1, 36 P3A/TIOA1_1/INT17_1, 37 P3B/TIOA2_1/INT18_1, 38 P3C/TIOA3_1/INT19_1, 39 P3D/TIOA4_1, 40 P3E/TIOA5_1, 41 P5D/TIOB12_2/INT03_2, 42 P5E/TIOA13_2, 43 P5F/TIOB13_2, 44 VSS, 45 VCC, 46 P40/TIOA0_0/AIN0_0/AIN0_0, 47 P41/TIOA1_0, 48 P42/TIOA2_0, 49 P43/TIOA3_0/INT04_0, 50 P44/TIOA4_0, 51 P45/TIOA5_0, 52 C, 53 VSS, 54 VCC, 55 P46/X0A, 56 P47/X1A, 57 INITX-RESET, 58 PF0/RX0_2/TIOA15_1/INT22_1, 59 PF1/TX0_2/TIOB15_1/INT23_1, 60 P48/INT06_0, 61 P610, 62 P4A, 63 P4B/INT04_2, 64 P4C/INT05_2, 65 P4D/INT07_0, 66 P4E/INT05_0, 67 P70, 68 P71/INT04_1, 69 P72/TIOB0_0/INT06_2, 70 P73/TIOB1_0/INT20_0, 71 P74/TIOB2_0, 72 P75/TIOB3_0, 73 P76/TIOB4_0/INT21_0, 74 P77/TIOB5_0, 75 P78/AIN0_1, 76 P79/INT22_0, 77 P7A/INT07_2, 78 PF2/TIOA6_1, 79 PF3/TIOB6_1/INT05_1, 80 PF4/TIOA7_1/INT06_1, 81 PF5/TIOB7_1/INT07_1, 82 PF6/TIOA14_1/INT20_1, 83 PF7/TIOB14_1/INT21_1, 84 PE0, 85 MD0, 86 PE2, 87 PE3, 88 VSS, 89 VCC, 90 AVCC, 91 AVSS, 92 AVRL, 93 AVRH, 94 P10/AN00/TIOA0_2/INT08_0, 95 P11/AN01/TIOB0_2, 96 P12/AN02/TIOA1_2, 97 P13/AN03/TIOB1_2/INT25_1, 98 P14/AN04/TIOA2_2, 99 P15/AN05/TIOB2_2, 100 P16/AN06/RX0_0/INT09_0, 101 P17/AN07/TX0_0, 102 PB0/AN16/TIOA9_1, 103 PB1/AN17/TIOB9_1/INT08_1, 104 PB2/AN18/TIOA10_1/INT09_1, 105 PB3/AN19/TIOB10_1, 106 P18/AN08/TIOA3_2/INT10_0, 107 P19/AN09/TIOB3_2/INT24_1, 108 P1A/AN10/TIOA4_2, 109 P1B/AN11/TIOB4_2/INT11_0, 110 PB4/AN20/TIOA11_1/INT10_1, 111 PB5/AN21/TIOB11_1/INT11_1, 112 PB6/AN22/TIOA12_1, 113 PB7/AN23/TIOB12_1, 114 P1C/AN12/TIOA5_2, 115 P1D/AN13/TIOB5_2, 116 P1E/AN14/TIOA8_1/INT26_1, 117 P1F/AN15/TIOB8_1/INT27_1, 118 P2A/AN24/INT08_2, 119 P29/AN25/INT09_2, 120 P28/AN26/INT10_2, 121 P27/AN27/INT24_0, 122 P26/ADTG_6/TIOA6_2/INT11_2, 123 P25/AN28/TIOB6_2/INT25_0, 124 P24/AN29/TIOA13_1, 125 P23/AN30/TIOB13_1, 126 P22/AN31/INT26_0, 127 P21/INT27_0, 128 P20/WKUP0, 129 USBVCC1 , 130 P82, 131 P83, 132 VSS, 133 VCC , 134  P00 , 135 P01/SWCLK, 136 P02, 137 P03/SWDIO, 138 P04/TDO/SWO, 139 P90/TIOB0_1/INT12_1, 140 P91/TIOB1_1/INT13_1, 141 P92/TIOB2_1/INT14_1, 142 P92/TIOB3_1/INT14_1, 143 P94/TIOB4_1, 144 P95/TIOB5_1, 145 PC0, 146 PC1/TIOB6_0/E_RX03, 147 PC2/TIOA6_0/E_RX02, 148 PC3/TIOB7_0/E_RX01, 149 PC4/TIOA7_0/E_RX00, 150 PC5/TIOB14_0, 151 PC6/TIOA14_0, 152 PC7/INT13_0, 153 PC8, 154 PC9/TIOB15_0, 155 PCA/TIOA15_0, 156 ETHVCC, 157 VSS, 158 PCB/INT28_0, 159 PCC, 160 PCD/INT14_0, 161 PCE/INT15_0/E_TX03, 162 PCF/INT12_0/E_TX02, 163 PD0/INT30_1/E_TX01, 164 PD1/INT31_1/E_TX00, 165 PD2, 166 P6E/INT29_0, 167 P65/INT28_1, 168 P64/INT29_1, 169 P63/INT30_0, 170 P62/TIOB7_2, 171 P61/TIOA7_2, 172 P60/INT31_0/WKUP3, 173 USBVCC0, 174 P80, 175 P81, 176 VSS

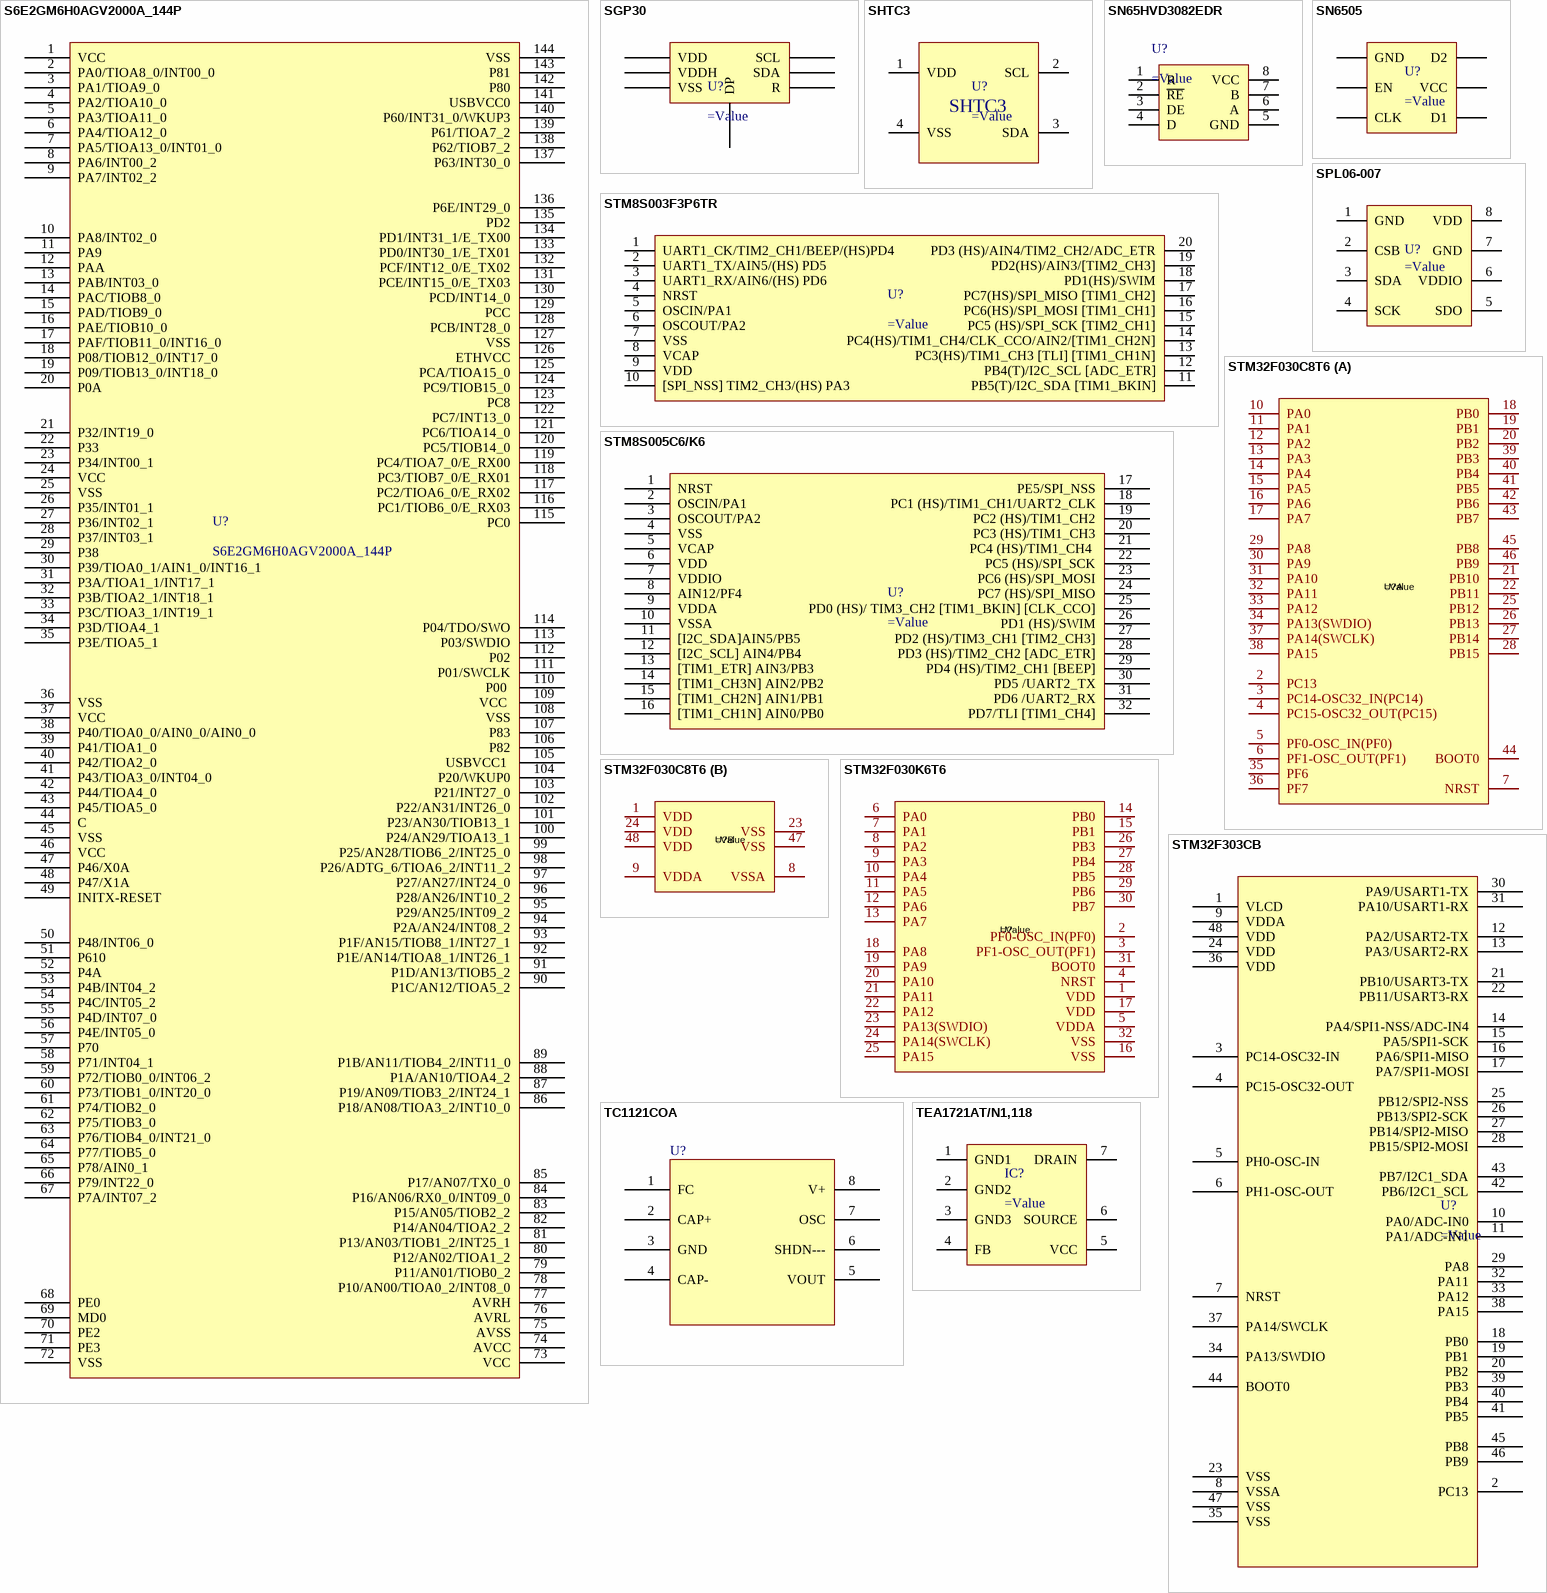
[diagram p7: symbols S6E2GM6H0AGV2000A_144P to TEA1721AT/N1,118]

## S6E2GM6H0AGV2000A_144P
designator U?
pins: 1 VCC, 2 PA0/TIOA8_0/INT00_0, 3 PA1/TIOA9_0, 4 PA2/TIOA10_0, 5 PA3/TIOA11_0, 6 PA4/TIOA12_0, 7 PA5/TIOA13_0/INT01_0, 8 PA6/INT00_2, 9 PA7/INT02_2, 10 PA8/INT02_0, 11 PA9, 12 PAA, 13 PAB/INT03_0, 14 PAC/TIOB8_0, 15 PAD/TIOB9_0, 16 PAE/TIOB10_0, 17 PAF/TIOB11_0/INT16_0, 18 P08/TIOB12_0/INT17_0, 19 P09/TIOB13_0/INT18_0, 20 P0A, 21 P32/INT19_0, 22 P33, 23 P34/INT00_1, 24 VCC, 25 VSS, 26 P35/INT01_1, 27 P36/INT02_1, 28 P37/INT03_1, 29 P38, 30 P39/TIOA0_1/AIN1_0/INT16_1, 31 P3A/TIOA1_1/INT17_1, 32 P3B/TIOA2_1/INT18_1, 33 P3C/TIOA3_1/INT19_1, 34 P3D/TIOA4_1, 35 P3E/TIOA5_1, 36 VSS, 37 VCC, 38 P40/TIOA0_0/AIN0_0/AIN0_0, 39 P41/TIOA1_0, 40 P42/TIOA2_0, 41 P43/TIOA3_0/INT04_0, 42 P44/TIOA4_0, 43 P45/TIOA5_0, 44 C, 45 VSS, 46 VCC, 47 P46/X0A, 48 P47/X1A, 49 INITX-RESET, 50 P48/INT06_0, 51 P610, 52 P4A, 53 P4B/INT04_2, 54 P4C/INT05_2, 55 P4D/INT07_0, 56 P4E/INT05_0, 57 P70, 58 P71/INT04_1, 59 P72/TIOB0_0/INT06_2, 60 P73/TIOB1_0/INT20_0, 61 P74/TIOB2_0, 62 P75/TIOB3_0, 63 P76/TIOB4_0/INT21_0, 64 P77/TIOB5_0, 65 P78/AIN0_1, 66 P79/INT22_0, 67 P7A/INT07_2, 68 PE0, 69 MD0, 70 PE2, 71 PE3, 72 VSS, 73 VCC, 74 AVCC, 75 AVSS, 76 AVRL, 77 AVRH, 78 P10/AN00/TIOA0_2/INT08_0, 79 P11/AN01/TIOB0_2, 80 P12/AN02/TIOA1_2, 81 P13/AN03/TIOB1_2/INT25_1, 82 P14/AN04/TIOA2_2, 83 P15/AN05/TIOB2_2, 84 P16/AN06/RX0_0/INT09_0, 85 P17/AN07/TX0_0, 86 P18/AN08/TIOA3_2/INT10_0, 87 P19/AN09/TIOB3_2/INT24_1, 88 P1A/AN10/TIOA4_2, 89 P1B/AN11/TIOB4_2/INT11_0, 90 P1C/AN12/TIOA5_2, 91 P1D/AN13/TIOB5_2, 92 P1E/AN14/TIOA8_1/INT26_1, 93 P1F/AN15/TIOB8_1/INT27_1, 94 P2A/AN24/INT08_2, 95 P29/AN25/INT09_2, 96 P28/AN26/INT10_2, 97 P27/AN27/INT24_0, 98 P26/ADTG_6/TIOA6_2/INT11_2, 99 P25/AN28/TIOB6_2/INT25_0, 100 P24/AN29/TIOA13_1, 101 P23/AN30/TIOB13_1, 102 P22/AN31/INT26_0, 103 P21/INT27_0, 104 P20/WKUP0, 105 USBVCC1 , 106 P82, 107 P83, 108 VSS, 109 VCC , 110 P00 , 111 P01/SWCLK, 112 P02, 113 P03/SWDIO, 114 P04/TDO/SWO, 115 PC0, 116 PC1/TIOB6_0/E_RX03, 117 PC2/TIOA6_0/E_RX02, 118 PC3/TIOB7_0/E_RX01, 119 PC4/TIOA7_0/E_RX00, 120 PC5/TIOB14_0, 121 PC6/TIOA14_0, 122 PC7/INT13_0, 123 PC8, 124 PC9/TIOB15_0, 125 PCA/TIOA15_0, 126 ETHVCC, 127 VSS, 128 PCB/INT28_0, 129 PCC, 130 PCD/INT14_0, 131 PCE/INT15_0/E_TX03, 132 PCF/INT12_0/E_TX02, 133 PD0/INT30_1/E_TX01, 134 PD1/INT31_1/E_TX00, 135 PD2, 136 P6E/INT29_0, 137 P63/INT30_0, 138 P62/TIOB7_2, 139 P61/TIOA7_2, 140 P60/INT31_0/WKUP3, 141 USBVCC0, 142 P80, 143 P81, 144 VSS

## SGP30
designator U?
=Description
pins: 0 DP, 1 VDD, 2 VSS, 3 SDA, 4 R, 5 VDDH, 6 SCL

## SHTC3
designator U?
=Description
pins: 1 VDD, 2 SCL, 3 SDA, 4 VSS

## SN65HVD3082EDR
designator U?
=Description
pins: 1 R, 2 ~{RE}, 3 DE, 4 D, 5 GND, 6 A, 7 B, 8 VCC

## SN6505
designator U?
=Description
pins: 1 D1, 2 VCC, 3 D2, 4 GND, 5 EN, 6 CLK

## SPL06-007
designator U?
=Description
pins: 1 GND, 2 CSB, 3 SDA, 4 SCK, 5 SDO, 6 VDDIO, 7 GND, 8 VDD

## STM8S003F3P6TR
designator U?
=Description
pins: 1 UART1_CK/TIM2_CH1/BEEP/(HS)PD4, 2 UART1_TX/AIN5/(HS) PD5, 3 UART1_RX/AIN6/(HS) PD6, 4 NRST, 5 OSCIN/PA1, 6 OSCOUT/PA2, 7 VSS, 8 VCAP, 9 VDD, 10 [SPI_NSS] TIM2_CH3/(HS) PA3, 11 PB5(T)/I2C_SDA [TIM1_BKIN], 12 PB4(T)/I2C_SCL [ADC_ETR], 13 PC3(HS)/TIM1_CH3 [TLI] [TIM1_CH1N], 14 PC4(HS)/TIM1_CH4/CLK_CCO/AIN2/[TIM1_CH2N], 15 PC5 (HS)/SPI_SCK [TIM2_CH1], 16 PC6(HS)/SPI_MOSI [TIM1_CH1], 17 PC7(HS)/SPI_MISO [TIM1_CH2], 18 PD1(HS)/SWIM, 19 PD2(HS)/AIN3/[TIM2_CH3], 20 PD3 (HS)/AIN4/TIM2_CH2/ADC_ETR

## STM8S005C6/K6
designator U?
=Description
pins: 1 NRST, 2 OSCIN/PA1, 3 OSCOUT/PA2, 4 VSS, 5 VCAP, 6 VDD, 7 VDDIO, 8 AIN12/PF4, 9 VDDA, 10 VSSA, 11 [I2C_SDA]AIN5/PB5, 12 [I2C_SCL] AIN4/PB4, 13 [TIM1_ETR] AIN3/PB3, 14 [TIM1_CH3N] AIN2/PB2, 15 [TIM1_CH2N] AIN1/PB1, 16 [TIM1_CH1N] AIN0/PB0, 17 PE5/SPI_NSS, 18 PC1 (HS)/TIM1_CH1/UART2_CLK, 19 PC2 (HS)/TIM1_CH2, 20 PC3 (HS)/TIM1_CH3, 21 PC4 (HS)/TIM1_CH4 , 22 PC5 (HS)/SPI_SCK, 23 PC6 (HS)/SPI_MOSI, 24 PC7 (HS)/SPI_MISO, 25 PD0 (HS)/ TIM3_CH2 [TIM1_BKIN] [CLK_CCO], 26 PD1 (HS)/SWIM, 27 PD2 (HS)/TIM3_CH1 [TIM2_CH3], 28 PD3 (HS)/TIM2_CH2 [ADC_ETR], 29 PD4 (HS)/TIM2_CH1 [BEEP], 30 PD5 /UART2_TX, 31 PD6 /UART2_RX, 32 PD7/TLI [TIM1_CH4]

## STM32F030C8T6
designator U?
=Description; Manufacturer: ST(意法半导体); Symbol: STM32F030C8T6; Device: STM32F030C8T6_C23922; Add into BOM: yes; CPU Core: ARM-M0; CPU Maximum Speed: 48MHz; Program Storage Size: 64KB; Program Memory Type: FLASH; GPIO Ports Number: 39; ADC (Bit): 12bit; Low Voltage Detection Threshold: 2.4V~3.6V; LCSC Part Name: 主流ARM Cortex-M0超值系列MCU，具有64 KB Flash和48 MHz CPU; Supplier Part: C23922; Manufacturer Part: STM32F030C8T6; Supplier Footprint: LQFP-48(7x7); JLCPCB Part Class: Extended Part; Datasheet: https://atta.szlcsc.com/upload/public/pdf/source/20150124/1457707258011.pdf; Supplier: LCSC; Convert to PCB: yes; Application Area: -
footprint LQFP-48_L7.0-W7.0-P0.50-LS9.0-BL
3D model LQFP-48_L7.0-W7.0-H1.4-LS9.0-P0.50
part A pins: 2 PC13, 3 PC14-OSC32_IN(PC14), 4 PC15-OSC32_OUT(PC15), 5 PF0-OSC_IN(PF0), 6 PF1-OSC_OUT(PF1), 7 NRST, 10 PA0, 11 PA1, 12 PA2, 13 PA3, 14 PA4, 15 PA5, 16 PA6, 17 PA7, 18 PB0, 19 PB1, 20 PB2, 21 PB10, 22 PB11, 25 PB12, 26 PB13, 27 PB14, 28 PB15, 29 PA8, 30 PA9, 31 PA10, 32 PA11, 33 PA12, 34 PA13(SWDIO), 35 PF6, 36 PF7, 37 PA14(SWCLK), 38 PA15, 39 PB3, 40 PB4, 41 PB5, 42 PB6, 43 PB7, 44 BOOT0, 45 PB8, 46 PB9
part B pins: 1 VDD, 8 VSSA, 9 VDDA, 23 VSS, 24 VDD, 47 VSS, 48 VDD

## STM32F030K6T6
designator U?
=Description; Manufacturer: ST(意法半导体); Symbol: STM32F030K6T6; Add into BOM: yes; CPU Core: ARM-M0; Program Storage Size: 32KB; RAM Size: 4KB; GPIO Ports Number: 26; Operating Voltage Range: 2.4V~3.6V; CPU Maximum Speed: 48MHz; Program Memory Type: FLASH; ADC (Bit): 12bit; Peripheral/Function: DMA；PWM; Device: STM32F030K6T6; LCSC Part Name: 主流ARM Cortex-M0超值系列MCU，具有32 KB Flash和48 MHz CPU; Supplier Part: C46830; Manufacturer Part: STM32F030K6T6; Supplier Footprint: LQFP-32(7x7); JLCPCB Part Class: Extended Part; Datasheet: https://atta.szlcsc.com/upload/public/pdf/source/20161209/1481271865294.pdf; Supplier: LCSC; Convert to PCB: yes; Operating Temperature Range: -40℃~+85℃; DAC (Bit): -; PWM (Bit): -; Universal Serial Bus: -; Internal Comparator: -; communication protocol: -; Watchdog: Yes; Real-Time Clock: -; Infrared Data Association: -; Low-Voltage Detect: Yes; CCP Capture/Compare: -; Secure Digital Input and Output: -; Direct Memory Access: Yes; Internal Oscillator: Yes
footprint TQFP-32_L7.0-W7.0-P0.50-BL
3D model TQFP-32_L7.0-W7.0-H1.2-LS9.0-P0.80
pins: 1 VDD, 2 PF0-OSC_IN(PF0), 3 PF1-OSC_OUT(PF1), 4 NRST, 5 VDDA, 6 PA0, 7 PA1, 8 PA2, 9 PA3, 10 PA4, 11 PA5, 12 PA6, 13 PA7, 14 PB0, 15 PB1, 16 VSS, 17 VDD, 18 PA8, 19 PA9, 20 PA10, 21 PA11, 22 PA12, 23 PA13(SWDIO), 24 PA14(SWCLK), 25 PA15, 26 PB3, 27 PB4, 28 PB5, 29 PB6, 30 PB7, 31 BOOT0, 32 VSS

## STM32F303CB
designator U?
=Description
pins: 1 VLCD, 2 PC13, 3 PC14-OSC32-IN, 4 PC15-OSC32-OUT, 5 PH0-OSC-IN, 6 PH1-OSC-OUT, 7 NRST, 8 VSSA, 9 VDDA, 10 PA0/ADC-IN0, 11 PA1/ADC-IN1, 12 PA2/USART2-TX, 13 PA3/USART2-RX, 14 PA4/SPI1-NSS/ADC-IN4, 15 PA5/SPI1-SCK, 16 PA6/SPI1-MISO, 17 PA7/SPI1-MOSI, 18 PB0, 19 PB1, 20 PB2, 21 PB10/USART3-TX, 22 PB11/USART3-RX, 23 VSS, 24 VDD, 25 PB12/SPI2-NSS, 26 PB13/SPI2-SCK, 27 PB14/SPI2-MISO, 28 PB15/SPI2-MOSI, 29 PA8, 30 PA9/USART1-TX, 31 PA10/USART1-RX, 32 PA11, 33 PA12, 34 PA13/SWDIO, 35 VSS, 36 VDD, 37 PA14/SWCLK, 38 PA15, 39 PB3, 40 PB4, 41 PB5, 42 PB6/I2C1_SCL, 43 PB7/I2C1_SDA, 44 BOOT0, 45 PB8, 46 PB9, 47 VSS, 48 VDD

## TC1121COA
designator U?
=Description; Part Num 1: LM358MX; Des: IC OPAMP GP 8SOIC; MANU 1: ON Semiconductor; MANU 2: BanLinhKien.Vn; Catelogy: IC; Unit: Pcs; Kieu_Chan: *; Type: SM; Part Num 2: MH000609
footprint SOIC-8 (SOIC, 8-Leads, Body 4.9x3.9mm, Pitch 1.27mm, IPC Low Density)
pins: 1 FC, 2 CAP+, 3 GND, 4 CAP-, 5 VOUT, 6 SHDN---, 7 OSC, 8 V+

## TEA1721AT/N1,118
designator IC?
=Description
pins: 1 GND1, 2 GND2, 3 GND3, 4 FB, 5 VCC, 6 SOURCE, 7 DRAIN

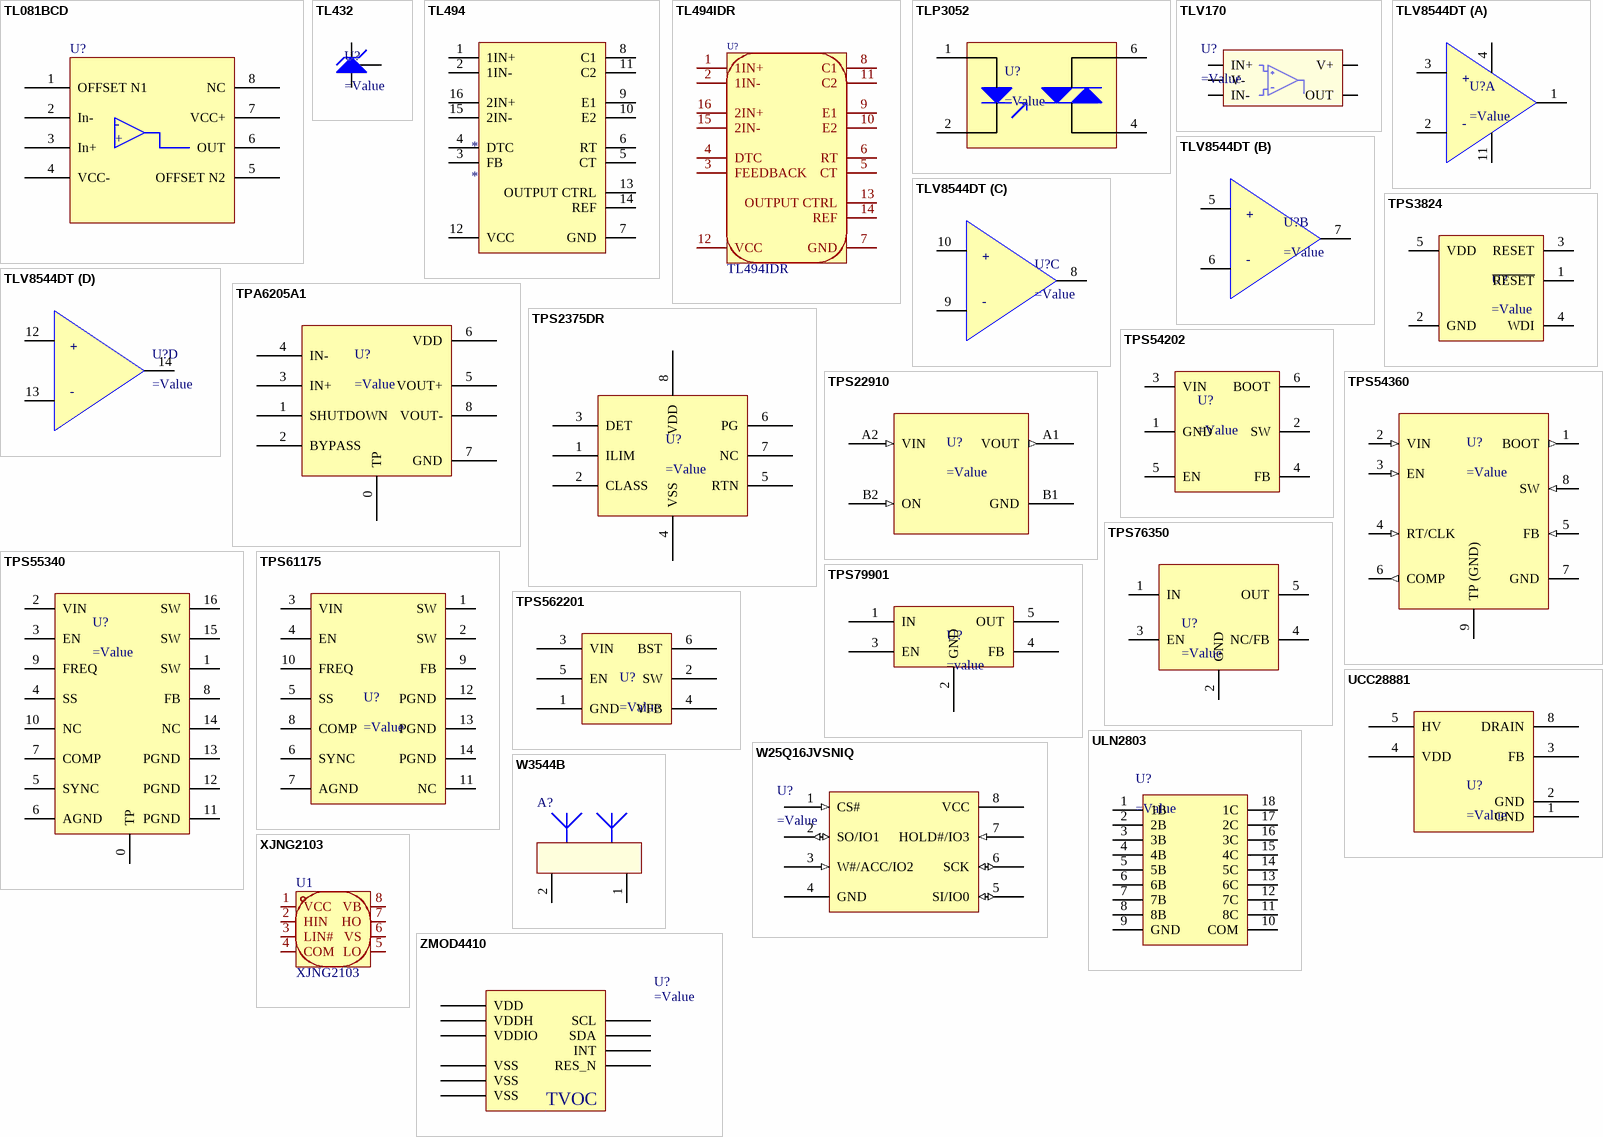
[diagram p8: symbols TL081BCD to ZMOD4410]

## TL081BCD
designator U?
=Description; Part Num 1: LM358MX; Des: IC OPAMP GP 8SOIC; MANU 1: ON Semiconductor; MANU 2: BanLinhKien.Vn; Catelogy: IC; Unit: Pcs; Kieu_Chan: *; Type: SM; Part Num 2: MH000609
footprint SOIC-8 (SOIC, 8-Leads, Body 4.9x3.9mm, Pitch 1.27mm, IPC Low Density)
pins: 1 OFFSET N1, 2 In-, 3 In+, 4 VCC-, 5 OFFSET N2, 6 OUT, 7 VCC+, 8 NC
text: -; +

## TL432
designator U?
=Description
pins: 1 REF, 2 C, 3 A

## TL494
designator *
pins: 1 1IN+, 2 1IN-, 3 FB, 4 DTC, 5 CT, 6 RT, 7 GND, 8 C1, 9 E1, 10 E2, 11 C2, 12 VCC, 13 OUTPUT CTRL, 14 REF, 15 2IN-, 16 2IN+

## TL494IDR
designator U?
7V~40V SOIC-16 DC-DC Converters ROHS; Manufacturer: TI(德州仪器); Add into BOM: yes; Function: Step-down type；boost converterType；Buck-boost type; Switching Frequency: 300kHz; Synchronous Rectification: NO; Number of Outputs: 2; Topology: Full-Bridge；Step-down；Push-pull；Flyback；Boost；半桥式; Symbol: TL494IDR; Device: TL494IDR; Supplier: LCSC; Manufacturer Part: TL494IDR; Supplier Part: C67476; JLCPCB Part Class: Extended Part; LCSC Part Name: TL494IDR; Supplier Footprint: SOIC-16; Datasheet: https://www.ti.com/cn/lit/gpn/tl494; Convert to PCB: yes; Input Voltage: 7V~40V; Operating Temperature: -40℃~+85℃@(TA)
pins: 1 1IN+, 2 1IN-, 3 FEEDBACK, 4 DTC, 5 CT, 6 RT, 7 GND, 8 C1, 9 E1, 10 E2, 11 C2, 12 VCC, 13 OUTPUT CTRL, 14 REF, 15 2IN-, 16 2IN+

## TLP3052
designator U?
=Description
pins: 1, 2, 4, 6

## TLV170
designator U?
=Description
pins: 1 OUT, 2 V-, 3 IN+, 4 IN-, 5 V+

## TLV8544DT
designator U?
=Description
part A pins: 1 VOUT, 2, 3, 4, 11
part B pins: 5, 6, 7 VOUT
part C pins: 8 VOUT, 9 2, 10 3
part D pins: 12, 13, 14 VOUT
part A text: +; -
part B text: +; -
part C text: +; -
part D text: +; -

## TPA6205A1
designator U?
=Description
pins: 0 TP, 1 SHUTDOWN, 2 BYPASS, 3 IN+, 4 IN-, 5 VOUT+, 6 VDD, 7 GND, 8 VOUT-

## TPS2375DR
designator U?
=Description
pins: 1 ILIM, 2 CLASS, 3 DET, 4 VSS, 5 RTN, 6 PG, 7 NC, 8 VDD

## TPS3824
designator U?
=Description
pins: 1 ~{RESET}, 2 GND, 3 RESET, 4 WDI, 5 VDD

## TPS22910
designator U?
=Description
pins: A1 VOUT (out), A2 VIN (in), B1 GND (power), B2 ON (in)

## TPS54202
designator U?
=Description
pins: 1 GND, 2 SW, 3 VIN, 4 FB, 5 EN, 6 BOOT

## TPS54360
designator U?
=Description
pins: 1 BOOT (out), 2 VIN (in), 3 EN (in), 4 RT/CLK (in), 5 FB (in), 6 COMP (out), 7 GND (power), 8 SW (in), 9 TP (GND) (power)

## TPS55340
designator U?
=Description
pins: 0 TP, 1 SW, 2 VIN, 3 EN, 4 SS, 5 SYNC, 6 AGND, 7 COMP, 8 FB, 9 FREQ, 10 NC, 11 PGND, 12 PGND, 13 PGND, 14 NC, 15 SW, 16 SW

## TPS61175
designator U?
=Description
pins: 1 SW, 2 SW, 3 VIN, 4 EN, 5 SS, 6 SYNC, 7 AGND, 8 COMP, 9 FB, 10 FREQ, 11 NC, 12 PGND, 13 PGND, 14 PGND

## TPS76350
designator U?
=Description
pins: 1 IN, 2 GND, 3 EN, 4 NC/FB, 5 OUT

## TPS79901
designator U?
=description
pins: 1 IN, 2 GND, 3 EN, 4 FB, 5 OUT

## TPS562201
designator U?
=Description
pins: 1 GND, 2 SW, 3 VIN, 4 VFB, 5 EN, 6 BST

## UCC28881
designator U?
=Description
pins: 1 GND, 2 GND, 3 FB, 4 VDD, 5 HV, 8 DRAIN

## ULN2803
designator U?
=Description
pins: 1 1B, 2 2B, 3 3B, 4 4B, 5 5B, 6 6B, 7 7B, 8 8B, 9 GND, 10 COM, 11 8C, 12 7C, 13 6C, 14 5C, 15 4C, 16 3C, 17 2C, 18 1C

## W25Q16JVSNIQ
designator U?
=Description
pins: 1 CS# (in), 2 SO/IO1 (io), 3 W#/ACC/IO2 (in), 4 GND (power), 5 SI/IO0 (io), 6 SCK (io), 7 HOLD#/IO3 (in), 8 VCC (power)

## W3544B
designator A?
=Description
pins: 1 S, 2 A, Hole hidden

## XJNG2103
designator U1
Manufacturer: NCE(无锡新洁能); Add into BOM: yes; Driven Configuration: Half Bridge; Load Type: MOSFET; Number of Drivers: 2; Supply Voltage: 6V~20V; Rise Time: 50ns; Fall Time: 40ns; Whether the isolation: Non-isolated; Symbol: XJNG2103; Device: XJNG2103; LCSC Part Name: XJNG2103; Supplier Part: C2887735; Manufacturer Part: XJNG2103; Supplier Footprint: SOIC-8; JLCPCB Part Class: Extended Part; Datasheet: https://atta.szlcsc.com/upload/public/pdf/source/20210824/2661D35F843708EC116D5340AB29615E.pdf; Supplier: LCSC; Convert to PCB: yes; Peak Output Current(sink): -; Peak Output Current(source): -; Propagation Delay tpLH: -; Propagation Delay tpHL: -; Feature: -; Operating Temperature: -55℃~+150℃@(Tj)
footprint SOIC-8_L4.9-W3.9-P1.27-LS6.0-BL
3D model SOIC-8_L4.9-W3.9-H1.7-LS6.0-P1.27
pins: 1 VCC, 2 HIN, 3 LIN#, 4 COM, 5 LO, 6 VS, 7 HO, 8 VB

## ZMOD4410
designator U?
=Description
pins: 1 SCL, 2 SDA, 3 INT, 5 VDD, 6 VSS, 7 VSS, 9 VSS, 10 VDDH, 11 RES_N, 12 VDDIO
text: TVOC